# Altium schematic symbol library Luminary+Micro.SchLib: 208 symbols (part 2 of 5)
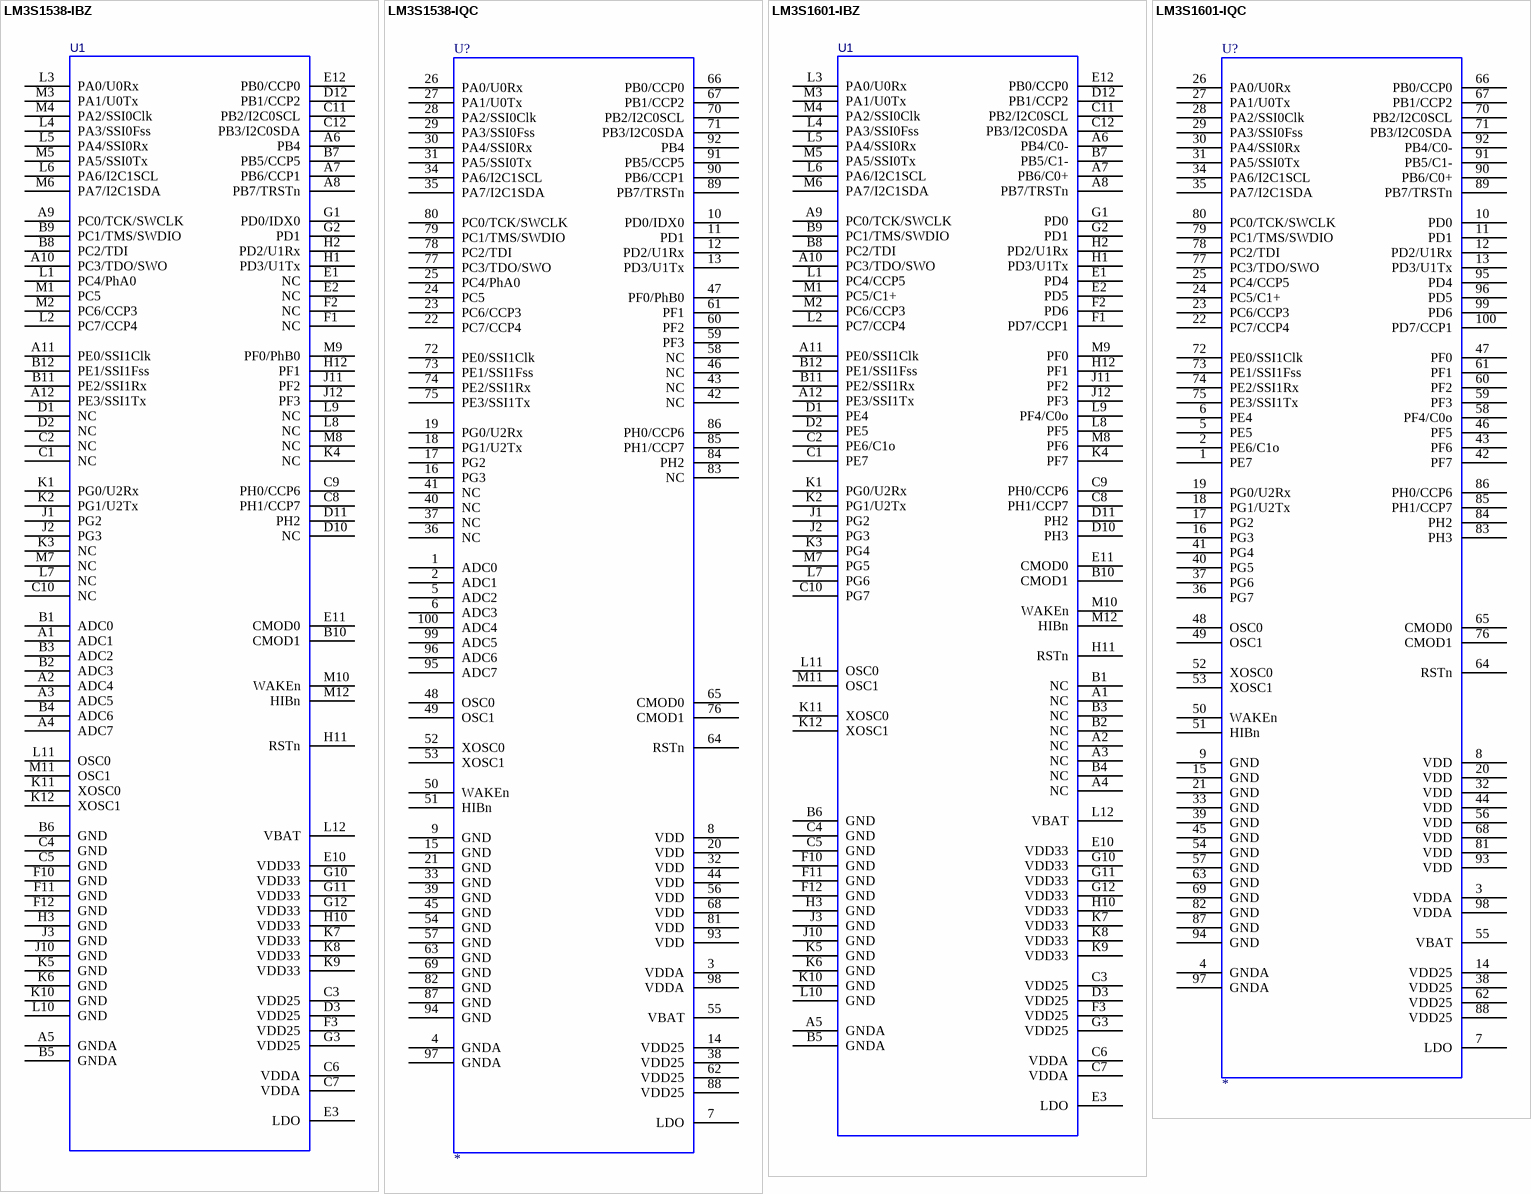
[diagram p49: symbols LM3S1538-IBZ to LM3S1601-IQC]

## LM3S1601-IBZ
designator U1
Stellaris ARM Cortex-M3 Microcontroller; MFG: Luminary Micro; Ordering: LM3S1601-IBZ; LMI Class: Fury
footprint BGA108C80P12X12_1000X1000X150 (BGA, 108-Leads, Body 10.0x10.0mm,  Pitch 0.80mm)
pins: A1 NC, A2 NC, A3 NC, A4 NC, A5 GNDA, A6 PB4/C0-, A7 PB6/C0+, A8 PB7/TRSTn, A9 PC0/TCK/SWCLK, A10 PC3/TDO/SWO, A11 PE0/SSI1Clk, A12 PE3/SSI1Tx, B1 NC, B2 NC, B3 NC, B4 NC, B5 GNDA, B6 GND, B7 PB5/C1-, B8 PC2/TDI, B9 PC1/TMS/SWDIO, B10 CMOD1, B11 PE2/SSI1Rx, B12 PE1/SSI1Fss, C1 PE7, C2 PE6/C1o, C3 VDD25, C4 GND, C5 GND, C6 VDDA, C7 VDDA, C8 PH1/CCP7, C9 PH0/CCP6, C10 PG7, C11 PB2/I2C0SCL, C12 PB3/I2C0SDA, D1 PE4, D2 PE5, D3 VDD25, D10 PH3, D11 PH2, D12 PB1/CCP2, E1 PD4, E2 PD5, E3 LDO, E10 VDD33, E11 CMOD0, E12 PB0/CCP0, F1 PD7/CCP1, F2 PD6, F3 VDD25, F10 GND, F11 GND, F12 GND, G1 PD0, G2 PD1, G3 VDD25, G10 VDD33, G11 VDD33, G12 VDD33, H1 PD3/U1Tx, H2 PD2/U1Rx, H3 GND, H10 VDD33, H11 RSTn, H12 PF1, J1 PG2, J2 PG3, J3 GND, J10 GND, J11 PF2, J12 PF3, K1 PG0/U2Rx, K2 PG1/U2Tx, K3 PG4, K4 PF7, K5 GND, K6 GND, K7 VDD33, K8 VDD33, K9 VDD33, K10 GND, K11 XOSC0, K12 XOSC1, L1 PC4/CCP5, L2 PC7/CCP4, L3 PA0/U0Rx, L4 PA3/SSI0Fss, L5 PA4/SSI0Rx, L6 PA6/I2C1SCL, L7 PG6, L8 PF5, L9 PF4/C0o, L10 GND, L11 OSC0, L12 VBAT, M1 PC5/C1+, M2 PC6/CCP3, M3 PA1/U0Tx, M4 PA2/SSI0Clk, M5 PA5/SSI0Tx, M6 PA7/I2C1SDA, M7 PG5, M8 PF6, M9 PF0, M10 WAKEn, M11 OSC1, M12 HIBn

## LM3S1601-IQC
designator U?
Stellaris ARM Cortex-M3 Microcontroller; MFG: Luminary Micro; Ordering: LM3S1601-IQC; LMI Class: Fury
footprint QFP50P1600X1600X160-100N
pins: 1 PE7, 2 PE6/C1o, 3 VDDA, 4 GNDA, 5 PE5, 6 PE4, 7 LDO, 8 VDD, 9 GND, 10 PD0, 11 PD1, 12 PD2/U1Rx, 13 PD3/U1Tx, 14 VDD25, 15 GND, 16 PG3, 17 PG2, 18 PG1/U2Tx, 19 PG0/U2Rx, 20 VDD, 21 GND, 22 PC7/CCP4, 23 PC6/CCP3, 24 PC5/C1+, 25 PC4/CCP5, 26 PA0/U0Rx, 27 PA1/U0Tx, 28 PA2/SSI0Clk, 29 PA3/SSI0Fss, 30 PA4/SSI0Rx, 31 PA5/SSI0Tx, 32 VDD, 33 GND, 34 PA6/I2C1SCL, 35 PA7/I2C1SDA, 36 PG7, 37 PG6, 38 VDD25, 39 GND, 40 PG5, 41 PG4, 42 PF7, 43 PF6, 44 VDD, 45 GND, 46 PF5, 47 PF0, 48 OSC0, 49 OSC1, 50 WAKEn, 51 HIBn, 52 XOSC0, 53 XOSC1, 54 GND, 55 VBAT, 56 VDD, 57 GND, 58 PF4/C0o, 59 PF3, 60 PF2, 61 PF1, 62 VDD25, 63 GND, 64 RSTn, 65 CMOD0, 66 PB0/CCP0, 67 PB1/CCP2, 68 VDD, 69 GND, 70 PB2/I2C0SCL, 71 PB3/I2C0SDA, 72 PE0/SSI1Clk, 73 PE1/SSI1Fss, 74 PE2/SSI1Rx, 75 PE3/SSI1Tx, 76 CMOD1, 77 PC3/TDO/SWO, 78 PC2/TDI, 79 PC1/TMS/SWDIO, 80 PC0/TCK/SWCLK, 81 VDD, 82 GND, 83 PH3, 84 PH2, 85 PH1/CCP7, 86 PH0/CCP6, 87 GND, 88 VDD25, 89 PB7/TRSTn, 90 PB6/C0+, 91 PB5/C1-, 92 PB4/C0-, 93 VDD, 94 GND, 95 PD4, 96 PD5, 97 GNDA, 98 VDDA, 99 PD6, 100 PD7/CCP1

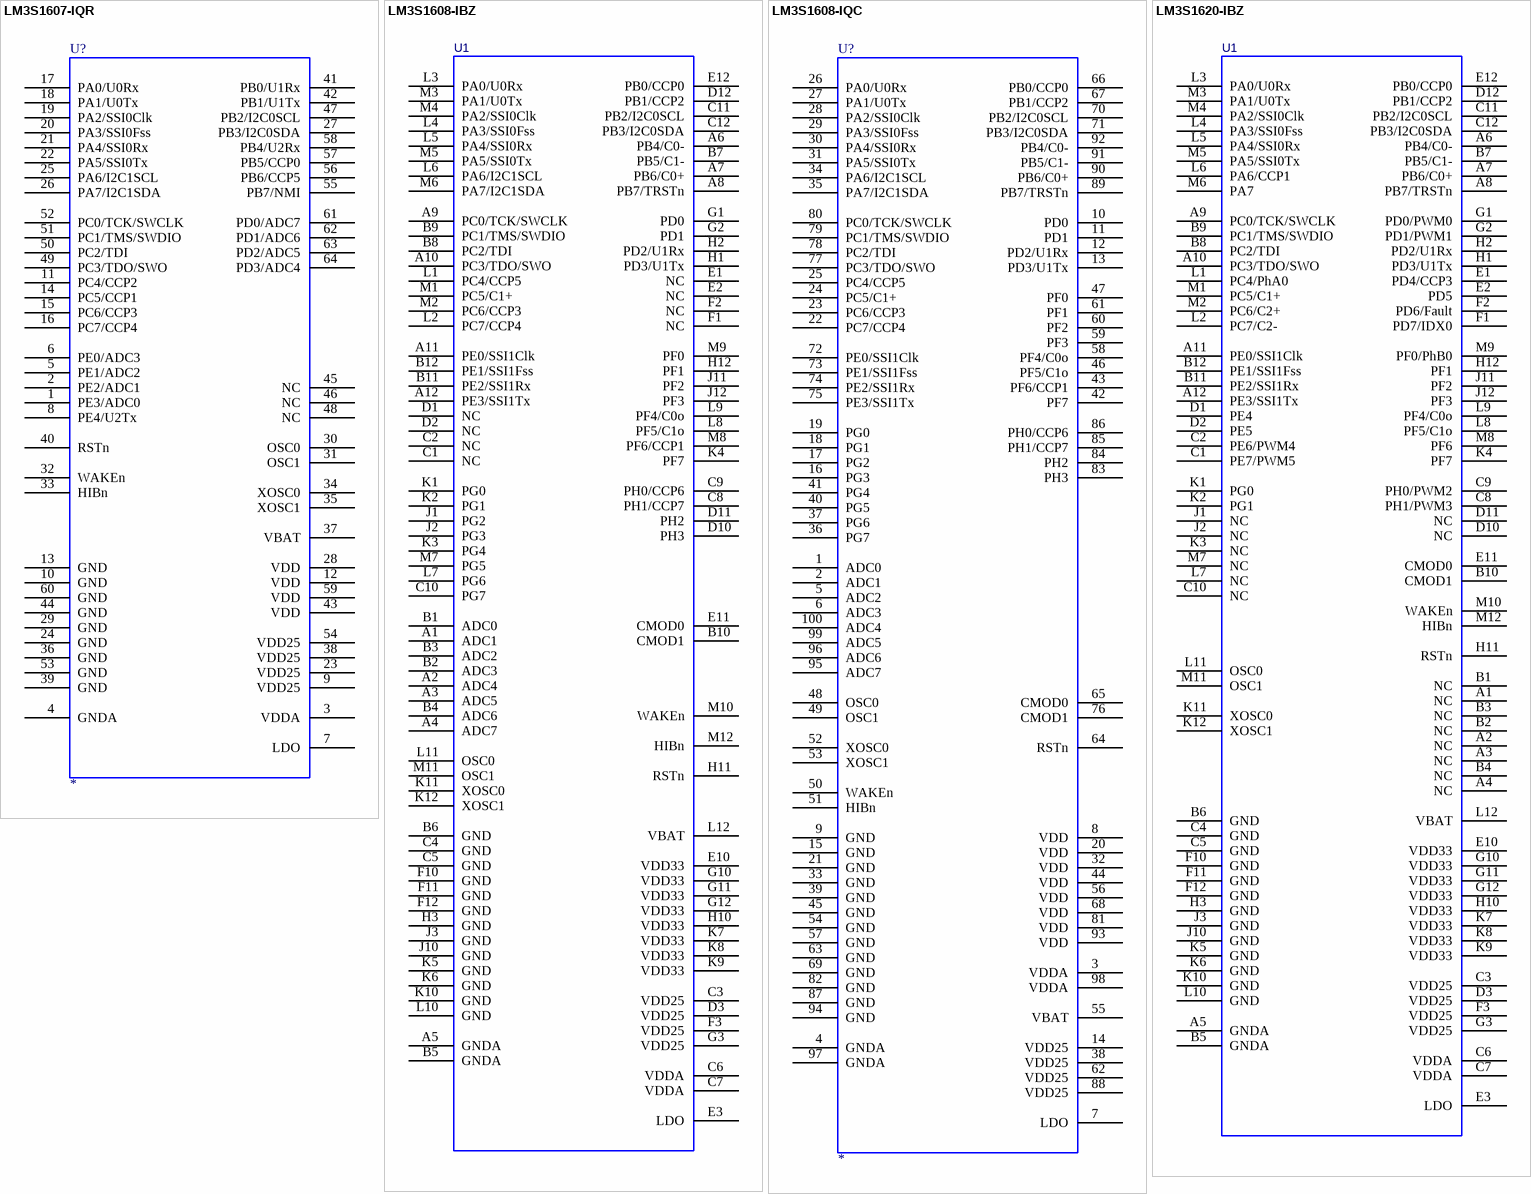
[diagram p10: symbols LM3S1607-IQR to LM3S1620-IBZ]

## LM3S1607-IQR
designator U?
Stellaris ARM Cortex-M3 Microcontroller; MFG: Luminary Micro; Ordering: LM3S1607-IQR; LMI Class: Dust Devil
footprint QFP50P1200X1200X160-64N
pins: 1 PE3/ADC0, 2 PE2/ADC1, 3 VDDA, 4 GNDA, 5 PE1/ADC2, 6 PE0/ADC3, 7 LDO, 8 PE4/U2Tx, 9 VDD25, 10 GND, 11 PC4/CCP2, 12 VDD, 13 GND, 14 PC5/CCP1, 15 PC6/CCP3, 16 PC7/CCP4, 17 PA0/U0Rx, 18 PA1/U0Tx, 19 PA2/SSI0Clk, 20 PA3/SSI0Fss, 21 PA4/SSI0Rx, 22 PA5/SSI0Tx, 23 VDD25, 24 GND, 25 PA6/I2C1SCL, 26 PA7/I2C1SDA, 27 PB3/I2C0SDA, 28 VDD, 29 GND, 30 OSC0, 31 OSC1, 32 WAKEn, 33 HIBn, 34 XOSC0, 35 XOSC1, 36 GND, 37 VBAT, 38 VDD25, 39 GND, 40 RSTn, 41 PB0/U1Rx, 42 PB1/U1Tx, 43 VDD, 44 GND, 45 NC, 46 NC, 47 PB2/I2C0SCL, 48 NC, 49 PC3/TDO/SWO, 50 PC2/TDI, 51 PC1/TMS/SWDIO, 52 PC0/TCK/SWCLK, 53 GND, 54 VDD25, 55 PB7/NMI, 56 PB6/CCP5, 57 PB5/CCP0, 58 PB4/U2Rx, 59 VDD, 60 GND, 61 PD0/ADC7, 62 PD1/ADC6, 63 PD2/ADC5, 64 PD3/ADC4

## LM3S1608-IBZ
designator U1
Stellaris ARM Cortex-M3 Microcontroller; MFG: Luminary Micro; Ordering: LM3S1608-IBZ; LMI Class: Fury
footprint BGA108C80P12X12_1000X1000X150 (BGA, 108-Leads, Body 10.0x10.0mm,  Pitch 0.80mm)
pins: A1 ADC1, A2 ADC4, A3 ADC5, A4 ADC7, A5 GNDA, A6 PB4/C0-, A7 PB6/C0+, A8 PB7/TRSTn, A9 PC0/TCK/SWCLK, A10 PC3/TDO/SWO, A11 PE0/SSI1Clk, A12 PE3/SSI1Tx, B1 ADC0, B2 ADC3, B3 ADC2, B4 ADC6, B5 GNDA, B6 GND, B7 PB5/C1-, B8 PC2/TDI, B9 PC1/TMS/SWDIO, B10 CMOD1, B11 PE2/SSI1Rx, B12 PE1/SSI1Fss, C1 NC, C2 NC, C3 VDD25, C4 GND, C5 GND, C6 VDDA, C7 VDDA, C8 PH1/CCP7, C9 PH0/CCP6, C10 PG7, C11 PB2/I2C0SCL, C12 PB3/I2C0SDA, D1 NC, D2 NC, D3 VDD25, D10 PH3, D11 PH2, D12 PB1/CCP2, E1 NC, E2 NC, E3 LDO, E10 VDD33, E11 CMOD0, E12 PB0/CCP0, F1 NC, F2 NC, F3 VDD25, F10 GND, F11 GND, F12 GND, G1 PD0, G2 PD1, G3 VDD25, G10 VDD33, G11 VDD33, G12 VDD33, H1 PD3/U1Tx, H2 PD2/U1Rx, H3 GND, H10 VDD33, H11 RSTn, H12 PF1, J1 PG2, J2 PG3, J3 GND, J10 GND, J11 PF2, J12 PF3, K1 PG0, K2 PG1, K3 PG4, K4 PF7, K5 GND, K6 GND, K7 VDD33, K8 VDD33, K9 VDD33, K10 GND, K11 XOSC0, K12 XOSC1, L1 PC4/CCP5, L2 PC7/CCP4, L3 PA0/U0Rx, L4 PA3/SSI0Fss, L5 PA4/SSI0Rx, L6 PA6/I2C1SCL, L7 PG6, L8 PF5/C1o, L9 PF4/C0o, L10 GND, L11 OSC0, L12 VBAT, M1 PC5/C1+, M2 PC6/CCP3, M3 PA1/U0Tx, M4 PA2/SSI0Clk, M5 PA5/SSI0Tx, M6 PA7/I2C1SDA, M7 PG5, M8 PF6/CCP1, M9 PF0, M10 WAKEn, M11 OSC1, M12 HIBn

## LM3S1608-IQC
designator U?
Stellaris ARM Cortex-M3 Microcontroller; MFG: Luminary Micro; Ordering: LM3S1608-IQC; LMI Class: Fury
footprint QFP50P1600X1600X160-100N
pins: 1 ADC0, 2 ADC1, 3 VDDA, 4 GNDA, 5 ADC2, 6 ADC3, 7 LDO, 8 VDD, 9 GND, 10 PD0, 11 PD1, 12 PD2/U1Rx, 13 PD3/U1Tx, 14 VDD25, 15 GND, 16 PG3, 17 PG2, 18 PG1, 19 PG0, 20 VDD, 21 GND, 22 PC7/CCP4, 23 PC6/CCP3, 24 PC5/C1+, 25 PC4/CCP5, 26 PA0/U0Rx, 27 PA1/U0Tx, 28 PA2/SSI0Clk, 29 PA3/SSI0Fss, 30 PA4/SSI0Rx, 31 PA5/SSI0Tx, 32 VDD, 33 GND, 34 PA6/I2C1SCL, 35 PA7/I2C1SDA, 36 PG7, 37 PG6, 38 VDD25, 39 GND, 40 PG5, 41 PG4, 42 PF7, 43 PF6/CCP1, 44 VDD, 45 GND, 46 PF5/C1o, 47 PF0, 48 OSC0, 49 OSC1, 50 WAKEn, 51 HIBn, 52 XOSC0, 53 XOSC1, 54 GND, 55 VBAT, 56 VDD, 57 GND, 58 PF4/C0o, 59 PF3, 60 PF2, 61 PF1, 62 VDD25, 63 GND, 64 RSTn, 65 CMOD0, 66 PB0/CCP0, 67 PB1/CCP2, 68 VDD, 69 GND, 70 PB2/I2C0SCL, 71 PB3/I2C0SDA, 72 PE0/SSI1Clk, 73 PE1/SSI1Fss, 74 PE2/SSI1Rx, 75 PE3/SSI1Tx, 76 CMOD1, 77 PC3/TDO/SWO, 78 PC2/TDI, 79 PC1/TMS/SWDIO, 80 PC0/TCK/SWCLK, 81 VDD, 82 GND, 83 PH3, 84 PH2, 85 PH1/CCP7, 86 PH0/CCP6, 87 GND, 88 VDD25, 89 PB7/TRSTn, 90 PB6/C0+, 91 PB5/C1-, 92 PB4/C0-, 93 VDD, 94 GND, 95 ADC7, 96 ADC6, 97 GNDA, 98 VDDA, 99 ADC5, 100 ADC4

## LM3S1620-IBZ
designator U1
Stellaris ARM Cortex-M3 Microcontroller; MFG: Luminary Micro; Ordering: LM3S1620-IBZ; LMI Class: Fury
footprint BGA108C80P12X12_1000X1000X150 (BGA, 108-Leads, Body 10.0x10.0mm,  Pitch 0.80mm)
pins: A1 NC, A2 NC, A3 NC, A4 NC, A5 GNDA, A6 PB4/C0-, A7 PB6/C0+, A8 PB7/TRSTn, A9 PC0/TCK/SWCLK, A10 PC3/TDO/SWO, A11 PE0/SSI1Clk, A12 PE3/SSI1Tx, B1 NC, B2 NC, B3 NC, B4 NC, B5 GNDA, B6 GND, B7 PB5/C1-, B8 PC2/TDI, B9 PC1/TMS/SWDIO, B10 CMOD1, B11 PE2/SSI1Rx, B12 PE1/SSI1Fss, C1 PE7/PWM5, C2 PE6/PWM4, C3 VDD25, C4 GND, C5 GND, C6 VDDA, C7 VDDA, C8 PH1/PWM3, C9 PH0/PWM2, C10 NC, C11 PB2/I2C0SCL, C12 PB3/I2C0SDA, D1 PE4, D2 PE5, D3 VDD25, D10 NC, D11 NC, D12 PB1/CCP2, E1 PD4/CCP3, E2 PD5, E3 LDO, E10 VDD33, E11 CMOD0, E12 PB0/CCP0, F1 PD7/IDX0, F2 PD6/Fault, F3 VDD25, F10 GND, F11 GND, F12 GND, G1 PD0/PWM0, G2 PD1/PWM1, G3 VDD25, G10 VDD33, G11 VDD33, G12 VDD33, H1 PD3/U1Tx, H2 PD2/U1Rx, H3 GND, H10 VDD33, H11 RSTn, H12 PF1, J1 NC, J2 NC, J3 GND, J10 GND, J11 PF2, J12 PF3, K1 PG0, K2 PG1, K3 NC, K4 PF7, K5 GND, K6 GND, K7 VDD33, K8 VDD33, K9 VDD33, K10 GND, K11 XOSC0, K12 XOSC1, L1 PC4/PhA0, L2 PC7/C2-, L3 PA0/U0Rx, L4 PA3/SSI0Fss, L5 PA4/SSI0Rx, L6 PA6/CCP1, L7 NC, L8 PF5/C1o, L9 PF4/C0o, L10 GND, L11 OSC0, L12 VBAT, M1 PC5/C1+, M2 PC6/C2+, M3 PA1/U0Tx, M4 PA2/SSI0Clk, M5 PA5/SSI0Tx, M6 PA7, M7 NC, M8 PF6, M9 PF0/PhB0, M10 WAKEn, M11 OSC1, M12 HIBn

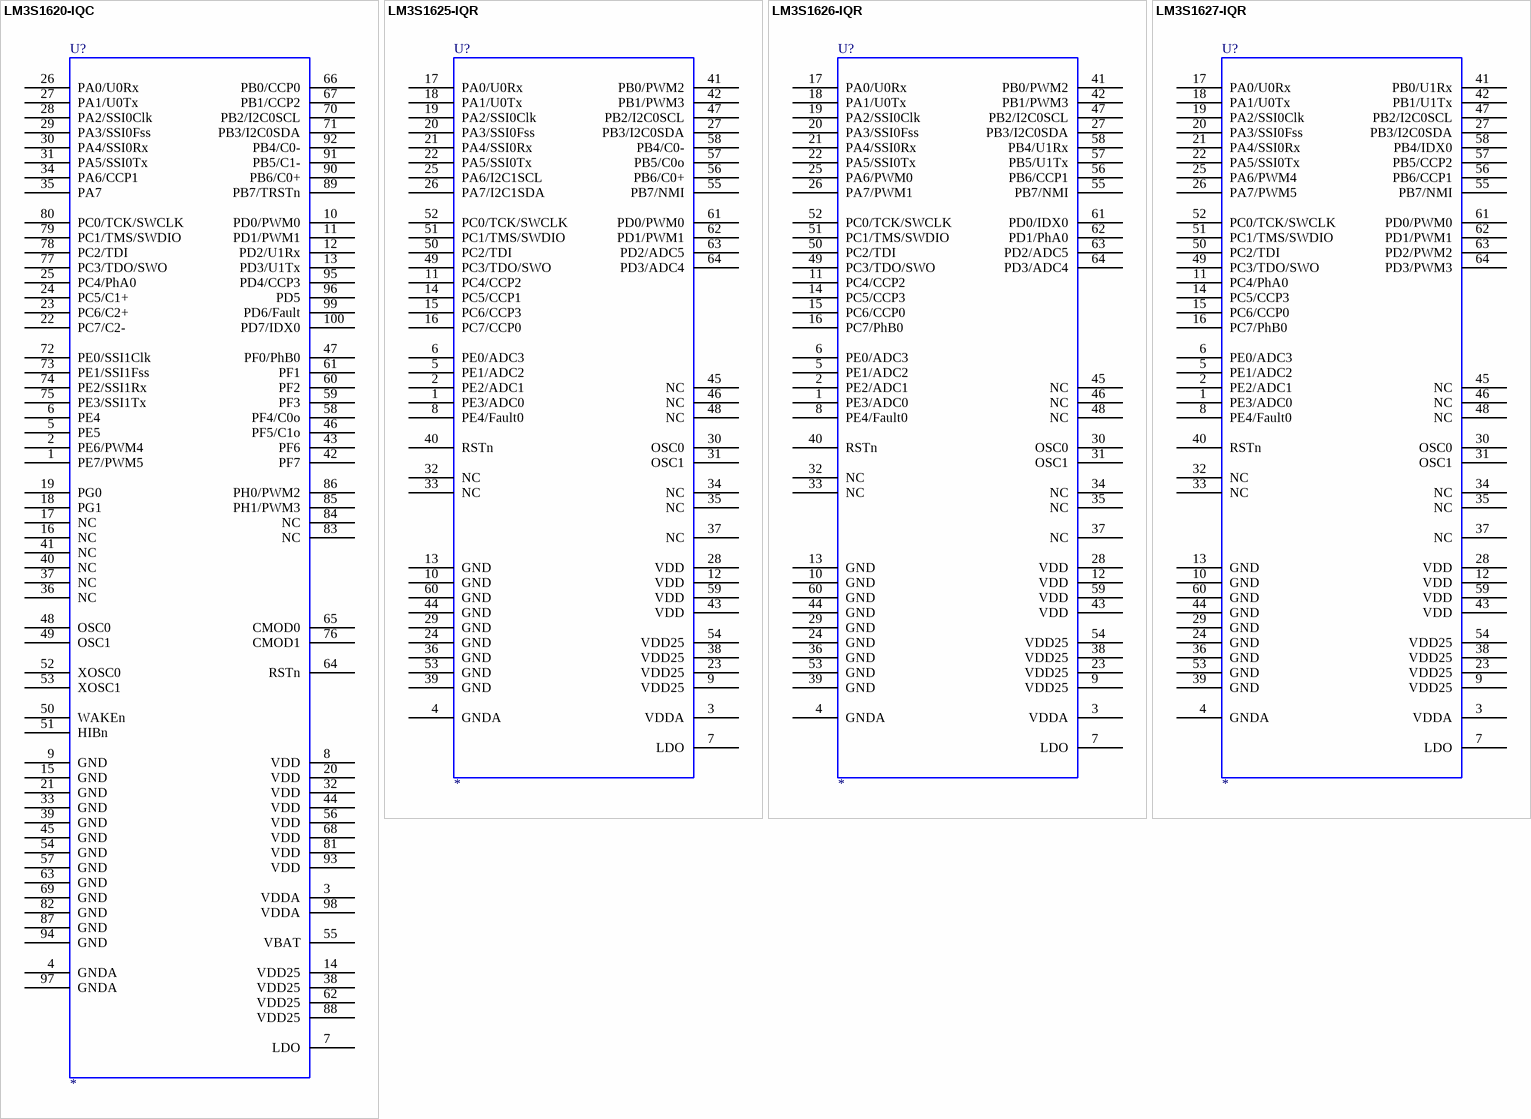
[diagram p11: symbols LM3S1620-IQC to LM3S1627-IQR]

## LM3S1620-IQC
designator U?
Stellaris ARM Cortex-M3 Microcontroller; MFG: Luminary Micro; Ordering: LM3S1620-IQC; LMI Class: Fury
footprint QFP50P1600X1600X160-100N
pins: 1 PE7/PWM5, 2 PE6/PWM4, 3 VDDA, 4 GNDA, 5 PE5, 6 PE4, 7 LDO, 8 VDD, 9 GND, 10 PD0/PWM0, 11 PD1/PWM1, 12 PD2/U1Rx, 13 PD3/U1Tx, 14 VDD25, 15 GND, 16 NC, 17 NC, 18 PG1, 19 PG0, 20 VDD, 21 GND, 22 PC7/C2-, 23 PC6/C2+, 24 PC5/C1+, 25 PC4/PhA0, 26 PA0/U0Rx, 27 PA1/U0Tx, 28 PA2/SSI0Clk, 29 PA3/SSI0Fss, 30 PA4/SSI0Rx, 31 PA5/SSI0Tx, 32 VDD, 33 GND, 34 PA6/CCP1, 35 PA7, 36 NC, 37 NC, 38 VDD25, 39 GND, 40 NC, 41 NC, 42 PF7, 43 PF6, 44 VDD, 45 GND, 46 PF5/C1o, 47 PF0/PhB0, 48 OSC0, 49 OSC1, 50 WAKEn, 51 HIBn, 52 XOSC0, 53 XOSC1, 54 GND, 55 VBAT, 56 VDD, 57 GND, 58 PF4/C0o, 59 PF3, 60 PF2, 61 PF1, 62 VDD25, 63 GND, 64 RSTn, 65 CMOD0, 66 PB0/CCP0, 67 PB1/CCP2, 68 VDD, 69 GND, 70 PB2/I2C0SCL, 71 PB3/I2C0SDA, 72 PE0/SSI1Clk, 73 PE1/SSI1Fss, 74 PE2/SSI1Rx, 75 PE3/SSI1Tx, 76 CMOD1, 77 PC3/TDO/SWO, 78 PC2/TDI, 79 PC1/TMS/SWDIO, 80 PC0/TCK/SWCLK, 81 VDD, 82 GND, 83 NC, 84 NC, 85 PH1/PWM3, 86 PH0/PWM2, 87 GND, 88 VDD25, 89 PB7/TRSTn, 90 PB6/C0+, 91 PB5/C1-, 92 PB4/C0-, 93 VDD, 94 GND, 95 PD4/CCP3, 96 PD5, 97 GNDA, 98 VDDA, 99 PD6/Fault, 100 PD7/IDX0

## LM3S1625-IQR
designator U?
Stellaris ARM Cortex-M3 Microcontroller; MFG: Luminary Micro; Ordering: LM3S1625-IQR; LMI Class: Dust Devil
footprint QFP50P1200X1200X160-64N
pins: 1 PE3/ADC0, 2 PE2/ADC1, 3 VDDA, 4 GNDA, 5 PE1/ADC2, 6 PE0/ADC3, 7 LDO, 8 PE4/Fault0, 9 VDD25, 10 GND, 11 PC4/CCP2, 12 VDD, 13 GND, 14 PC5/CCP1, 15 PC6/CCP3, 16 PC7/CCP0, 17 PA0/U0Rx, 18 PA1/U0Tx, 19 PA2/SSI0Clk, 20 PA3/SSI0Fss, 21 PA4/SSI0Rx, 22 PA5/SSI0Tx, 23 VDD25, 24 GND, 25 PA6/I2C1SCL, 26 PA7/I2C1SDA, 27 PB3/I2C0SDA, 28 VDD, 29 GND, 30 OSC0, 31 OSC1, 32 NC, 33 NC, 34 NC, 35 NC, 36 GND, 37 NC, 38 VDD25, 39 GND, 40 RSTn, 41 PB0/PWM2, 42 PB1/PWM3, 43 VDD, 44 GND, 45 NC, 46 NC, 47 PB2/I2C0SCL, 48 NC, 49 PC3/TDO/SWO, 50 PC2/TDI, 51 PC1/TMS/SWDIO, 52 PC0/TCK/SWCLK, 53 GND, 54 VDD25, 55 PB7/NMI, 56 PB6/C0+, 57 PB5/C0o, 58 PB4/C0-, 59 VDD, 60 GND, 61 PD0/PWM0, 62 PD1/PWM1, 63 PD2/ADC5, 64 PD3/ADC4

## LM3S1626-IQR
designator U?
Stellaris ARM Cortex-M3 Microcontroller; MFG: Luminary Micro; Ordering: LM3S1626-IQR; LMI Class: Dust Devil
footprint QFP50P1200X1200X160-64N
pins: 1 PE3/ADC0, 2 PE2/ADC1, 3 VDDA, 4 GNDA, 5 PE1/ADC2, 6 PE0/ADC3, 7 LDO, 8 PE4/Fault0, 9 VDD25, 10 GND, 11 PC4/CCP2, 12 VDD, 13 GND, 14 PC5/CCP3, 15 PC6/CCP0, 16 PC7/PhB0, 17 PA0/U0Rx, 18 PA1/U0Tx, 19 PA2/SSI0Clk, 20 PA3/SSI0Fss, 21 PA4/SSI0Rx, 22 PA5/SSI0Tx, 23 VDD25, 24 GND, 25 PA6/PWM0, 26 PA7/PWM1, 27 PB3/I2C0SDA, 28 VDD, 29 GND, 30 OSC0, 31 OSC1, 32 NC, 33 NC, 34 NC, 35 NC, 36 GND, 37 NC, 38 VDD25, 39 GND, 40 RSTn, 41 PB0/PWM2, 42 PB1/PWM3, 43 VDD, 44 GND, 45 NC, 46 NC, 47 PB2/I2C0SCL, 48 NC, 49 PC3/TDO/SWO, 50 PC2/TDI, 51 PC1/TMS/SWDIO, 52 PC0/TCK/SWCLK, 53 GND, 54 VDD25, 55 PB7/NMI, 56 PB6/CCP1, 57 PB5/U1Tx, 58 PB4/U1Rx, 59 VDD, 60 GND, 61 PD0/IDX0, 62 PD1/PhA0, 63 PD2/ADC5, 64 PD3/ADC4

## LM3S1627-IQR
designator U?
Stellaris ARM Cortex-M3 Microcontroller; MFG: Luminary Micro; Ordering: LM3S1627-IQR; LMI Class: Dust Devil
footprint QFP50P1200X1200X160-64N
pins: 1 PE3/ADC0, 2 PE2/ADC1, 3 VDDA, 4 GNDA, 5 PE1/ADC2, 6 PE0/ADC3, 7 LDO, 8 PE4/Fault0, 9 VDD25, 10 GND, 11 PC4/PhA0, 12 VDD, 13 GND, 14 PC5/CCP3, 15 PC6/CCP0, 16 PC7/PhB0, 17 PA0/U0Rx, 18 PA1/U0Tx, 19 PA2/SSI0Clk, 20 PA3/SSI0Fss, 21 PA4/SSI0Rx, 22 PA5/SSI0Tx, 23 VDD25, 24 GND, 25 PA6/PWM4, 26 PA7/PWM5, 27 PB3/I2C0SDA, 28 VDD, 29 GND, 30 OSC0, 31 OSC1, 32 NC, 33 NC, 34 NC, 35 NC, 36 GND, 37 NC, 38 VDD25, 39 GND, 40 RSTn, 41 PB0/U1Rx, 42 PB1/U1Tx, 43 VDD, 44 GND, 45 NC, 46 NC, 47 PB2/I2C0SCL, 48 NC, 49 PC3/TDO/SWO, 50 PC2/TDI, 51 PC1/TMS/SWDIO, 52 PC0/TCK/SWCLK, 53 GND, 54 VDD25, 55 PB7/NMI, 56 PB6/CCP1, 57 PB5/CCP2, 58 PB4/IDX0, 59 VDD, 60 GND, 61 PD0/PWM0, 62 PD1/PWM1, 63 PD2/PWM2, 64 PD3/PWM3

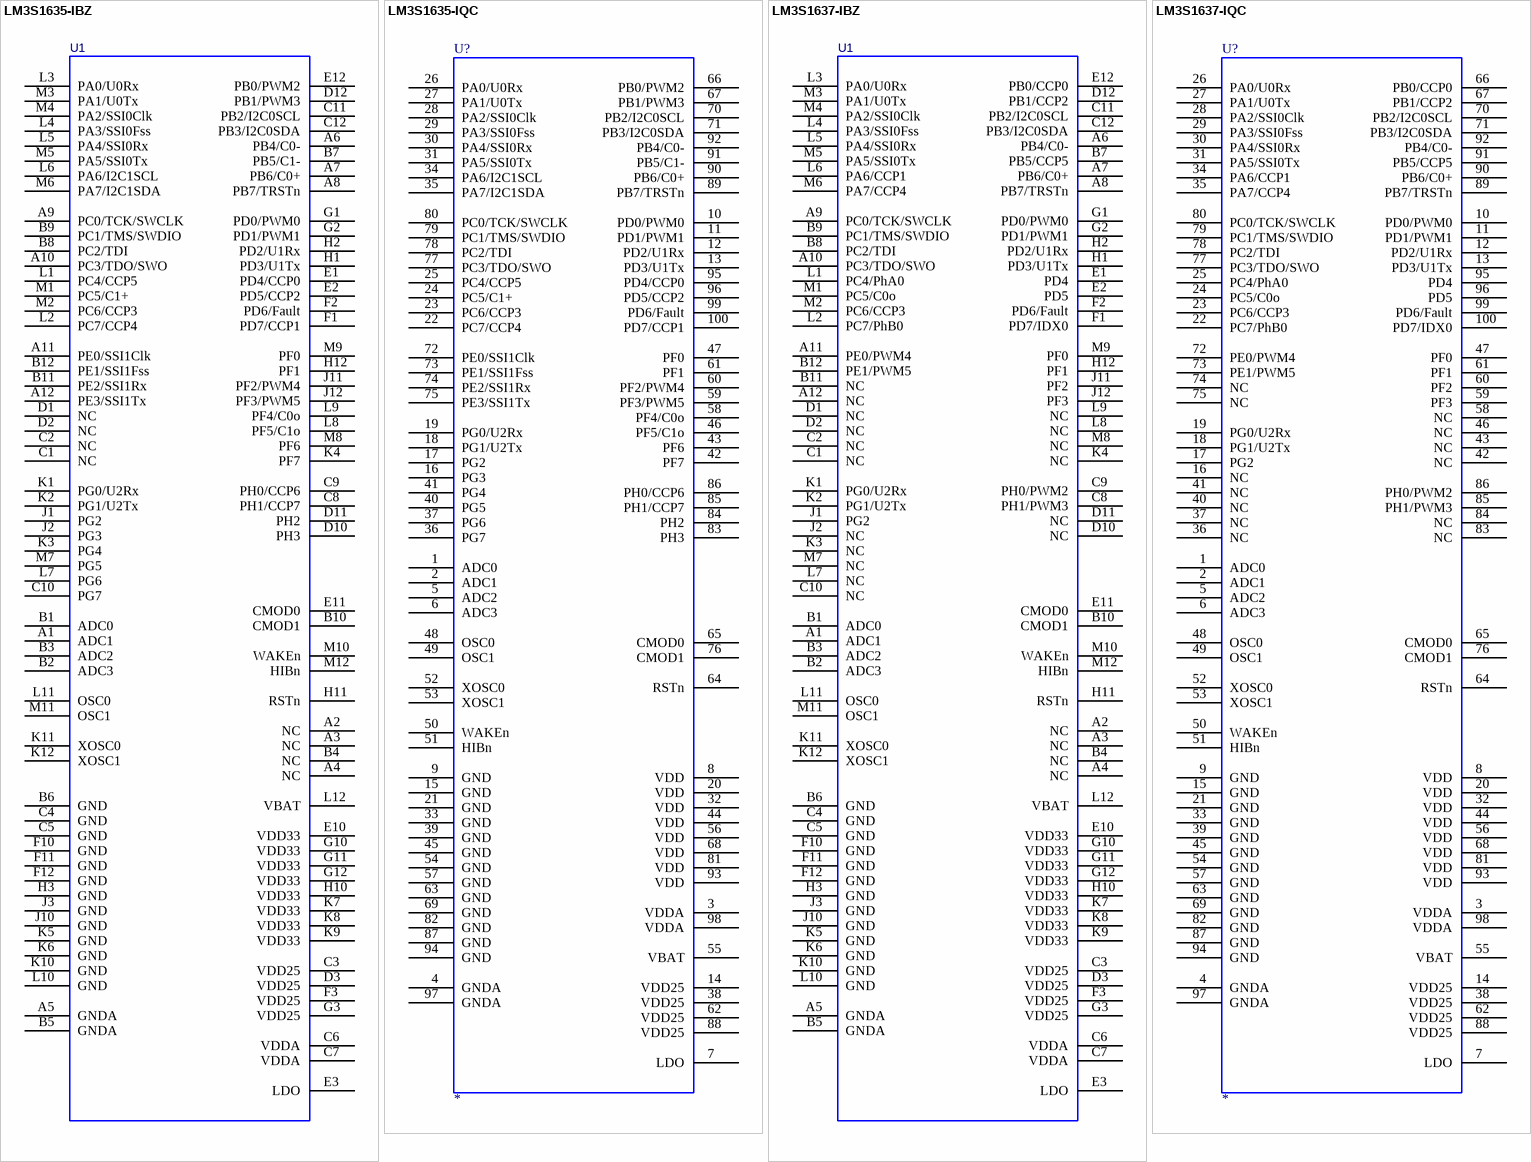
[diagram p12: symbols LM3S1635-IBZ to LM3S1637-IQC]

## LM3S1635-IBZ
designator U1
Stellaris ARM Cortex-M3 Microcontroller; MFG: Luminary Micro; Ordering: LM3S1635-IBZ; LMI Class: Fury
footprint BGA108C80P12X12_1000X1000X150 (BGA, 108-Leads, Body 10.0x10.0mm,  Pitch 0.80mm)
pins: A1 ADC1, A2 NC, A3 NC, A4 NC, A5 GNDA, A6 PB4/C0-, A7 PB6/C0+, A8 PB7/TRSTn, A9 PC0/TCK/SWCLK, A10 PC3/TDO/SWO, A11 PE0/SSI1Clk, A12 PE3/SSI1Tx, B1 ADC0, B2 ADC3, B3 ADC2, B4 NC, B5 GNDA, B6 GND, B7 PB5/C1-, B8 PC2/TDI, B9 PC1/TMS/SWDIO, B10 CMOD1, B11 PE2/SSI1Rx, B12 PE1/SSI1Fss, C1 NC, C2 NC, C3 VDD25, C4 GND, C5 GND, C6 VDDA, C7 VDDA, C8 PH1/CCP7, C9 PH0/CCP6, C10 PG7, C11 PB2/I2C0SCL, C12 PB3/I2C0SDA, D1 NC, D2 NC, D3 VDD25, D10 PH3, D11 PH2, D12 PB1/PWM3, E1 PD4/CCP0, E2 PD5/CCP2, E3 LDO, E10 VDD33, E11 CMOD0, E12 PB0/PWM2, F1 PD7/CCP1, F2 PD6/Fault, F3 VDD25, F10 GND, F11 GND, F12 GND, G1 PD0/PWM0, G2 PD1/PWM1, G3 VDD25, G10 VDD33, G11 VDD33, G12 VDD33, H1 PD3/U1Tx, H2 PD2/U1Rx, H3 GND, H10 VDD33, H11 RSTn, H12 PF1, J1 PG2, J2 PG3, J3 GND, J10 GND, J11 PF2/PWM4, J12 PF3/PWM5, K1 PG0/U2Rx, K2 PG1/U2Tx, K3 PG4, K4 PF7, K5 GND, K6 GND, K7 VDD33, K8 VDD33, K9 VDD33, K10 GND, K11 XOSC0, K12 XOSC1, L1 PC4/CCP5, L2 PC7/CCP4, L3 PA0/U0Rx, L4 PA3/SSI0Fss, L5 PA4/SSI0Rx, L6 PA6/I2C1SCL, L7 PG6, L8 PF5/C1o, L9 PF4/C0o, L10 GND, L11 OSC0, L12 VBAT, M1 PC5/C1+, M2 PC6/CCP3, M3 PA1/U0Tx, M4 PA2/SSI0Clk, M5 PA5/SSI0Tx, M6 PA7/I2C1SDA, M7 PG5, M8 PF6, M9 PF0, M10 WAKEn, M11 OSC1, M12 HIBn

## LM3S1635-IQC
designator U?
Stellaris ARM Cortex-M3 Microcontroller; MFG: Luminary Micro; Ordering: LM3S1635-IQC; LMI Class: Fury
footprint QFP50P1600X1600X160-100N
pins: 1 ADC0, 2 ADC1, 3 VDDA, 4 GNDA, 5 ADC2, 6 ADC3, 7 LDO, 8 VDD, 9 GND, 10 PD0/PWM0, 11 PD1/PWM1, 12 PD2/U1Rx, 13 PD3/U1Tx, 14 VDD25, 15 GND, 16 PG3, 17 PG2, 18 PG1/U2Tx, 19 PG0/U2Rx, 20 VDD, 21 GND, 22 PC7/CCP4, 23 PC6/CCP3, 24 PC5/C1+, 25 PC4/CCP5, 26 PA0/U0Rx, 27 PA1/U0Tx, 28 PA2/SSI0Clk, 29 PA3/SSI0Fss, 30 PA4/SSI0Rx, 31 PA5/SSI0Tx, 32 VDD, 33 GND, 34 PA6/I2C1SCL, 35 PA7/I2C1SDA, 36 PG7, 37 PG6, 38 VDD25, 39 GND, 40 PG5, 41 PG4, 42 PF7, 43 PF6, 44 VDD, 45 GND, 46 PF5/C1o, 47 PF0, 48 OSC0, 49 OSC1, 50 WAKEn, 51 HIBn, 52 XOSC0, 53 XOSC1, 54 GND, 55 VBAT, 56 VDD, 57 GND, 58 PF4/C0o, 59 PF3/PWM5, 60 PF2/PWM4, 61 PF1, 62 VDD25, 63 GND, 64 RSTn, 65 CMOD0, 66 PB0/PWM2, 67 PB1/PWM3, 68 VDD, 69 GND, 70 PB2/I2C0SCL, 71 PB3/I2C0SDA, 72 PE0/SSI1Clk, 73 PE1/SSI1Fss, 74 PE2/SSI1Rx, 75 PE3/SSI1Tx, 76 CMOD1, 77 PC3/TDO/SWO, 78 PC2/TDI, 79 PC1/TMS/SWDIO, 80 PC0/TCK/SWCLK, 81 VDD, 82 GND, 83 PH3, 84 PH2, 85 PH1/CCP7, 86 PH0/CCP6, 87 GND, 88 VDD25, 89 PB7/TRSTn, 90 PB6/C0+, 91 PB5/C1-, 92 PB4/C0-, 93 VDD, 94 GND, 95 PD4/CCP0, 96 PD5/CCP2, 97 GNDA, 98 VDDA, 99 PD6/Fault, 100 PD7/CCP1

## LM3S1637-IBZ
designator U1
Stellaris ARM Cortex-M3 Microcontroller; MFG: Luminary Micro; Ordering: LM3S1637-IBZ; LMI Class: Fury
footprint BGA108C80P12X12_1000X1000X150 (BGA, 108-Leads, Body 10.0x10.0mm,  Pitch 0.80mm)
pins: A1 ADC1, A2 NC, A3 NC, A4 NC, A5 GNDA, A6 PB4/C0-, A7 PB6/C0+, A8 PB7/TRSTn, A9 PC0/TCK/SWCLK, A10 PC3/TDO/SWO, A11 PE0/PWM4, A12 NC, B1 ADC0, B2 ADC3, B3 ADC2, B4 NC, B5 GNDA, B6 GND, B7 PB5/CCP5, B8 PC2/TDI, B9 PC1/TMS/SWDIO, B10 CMOD1, B11 NC, B12 PE1/PWM5, C1 NC, C2 NC, C3 VDD25, C4 GND, C5 GND, C6 VDDA, C7 VDDA, C8 PH1/PWM3, C9 PH0/PWM2, C10 NC, C11 PB2/I2C0SCL, C12 PB3/I2C0SDA, D1 NC, D2 NC, D3 VDD25, D10 NC, D11 NC, D12 PB1/CCP2, E1 PD4, E2 PD5, E3 LDO, E10 VDD33, E11 CMOD0, E12 PB0/CCP0, F1 PD7/IDX0, F2 PD6/Fault, F3 VDD25, F10 GND, F11 GND, F12 GND, G1 PD0/PWM0, G2 PD1/PWM1, G3 VDD25, G10 VDD33, G11 VDD33, G12 VDD33, H1 PD3/U1Tx, H2 PD2/U1Rx, H3 GND, H10 VDD33, H11 RSTn, H12 PF1, J1 PG2, J2 NC, J3 GND, J10 GND, J11 PF2, J12 PF3, K1 PG0/U2Rx, K2 PG1/U2Tx, K3 NC, K4 NC, K5 GND, K6 GND, K7 VDD33, K8 VDD33, K9 VDD33, K10 GND, K11 XOSC0, K12 XOSC1, L1 PC4/PhA0, L2 PC7/PhB0, L3 PA0/U0Rx, L4 PA3/SSI0Fss, L5 PA4/SSI0Rx, L6 PA6/CCP1, L7 NC, L8 NC, L9 NC, L10 GND, L11 OSC0, L12 VBAT, M1 PC5/C0o, M2 PC6/CCP3, M3 PA1/U0Tx, M4 PA2/SSI0Clk, M5 PA5/SSI0Tx, M6 PA7/CCP4, M7 NC, M8 NC, M9 PF0, M10 WAKEn, M11 OSC1, M12 HIBn

## LM3S1637-IQC
designator U?
Stellaris ARM Cortex-M3 Microcontroller; MFG: Luminary Micro; Ordering: LM3S1637-IQC; LMI Class: Fury
footprint QFP50P1600X1600X160-100N
pins: 1 ADC0, 2 ADC1, 3 VDDA, 4 GNDA, 5 ADC2, 6 ADC3, 7 LDO, 8 VDD, 9 GND, 10 PD0/PWM0, 11 PD1/PWM1, 12 PD2/U1Rx, 13 PD3/U1Tx, 14 VDD25, 15 GND, 16 NC, 17 PG2, 18 PG1/U2Tx, 19 PG0/U2Rx, 20 VDD, 21 GND, 22 PC7/PhB0, 23 PC6/CCP3, 24 PC5/C0o, 25 PC4/PhA0, 26 PA0/U0Rx, 27 PA1/U0Tx, 28 PA2/SSI0Clk, 29 PA3/SSI0Fss, 30 PA4/SSI0Rx, 31 PA5/SSI0Tx, 32 VDD, 33 GND, 34 PA6/CCP1, 35 PA7/CCP4, 36 NC, 37 NC, 38 VDD25, 39 GND, 40 NC, 41 NC, 42 NC, 43 NC, 44 VDD, 45 GND, 46 NC, 47 PF0, 48 OSC0, 49 OSC1, 50 WAKEn, 51 HIBn, 52 XOSC0, 53 XOSC1, 54 GND, 55 VBAT, 56 VDD, 57 GND, 58 NC, 59 PF3, 60 PF2, 61 PF1, 62 VDD25, 63 GND, 64 RSTn, 65 CMOD0, 66 PB0/CCP0, 67 PB1/CCP2, 68 VDD, 69 GND, 70 PB2/I2C0SCL, 71 PB3/I2C0SDA, 72 PE0/PWM4, 73 PE1/PWM5, 74 NC, 75 NC, 76 CMOD1, 77 PC3/TDO/SWO, 78 PC2/TDI, 79 PC1/TMS/SWDIO, 80 PC0/TCK/SWCLK, 81 VDD, 82 GND, 83 NC, 84 NC, 85 PH1/PWM3, 86 PH0/PWM2, 87 GND, 88 VDD25, 89 PB7/TRSTn, 90 PB6/C0+, 91 PB5/CCP5, 92 PB4/C0-, 93 VDD, 94 GND, 95 PD4, 96 PD5, 97 GNDA, 98 VDDA, 99 PD6/Fault, 100 PD7/IDX0

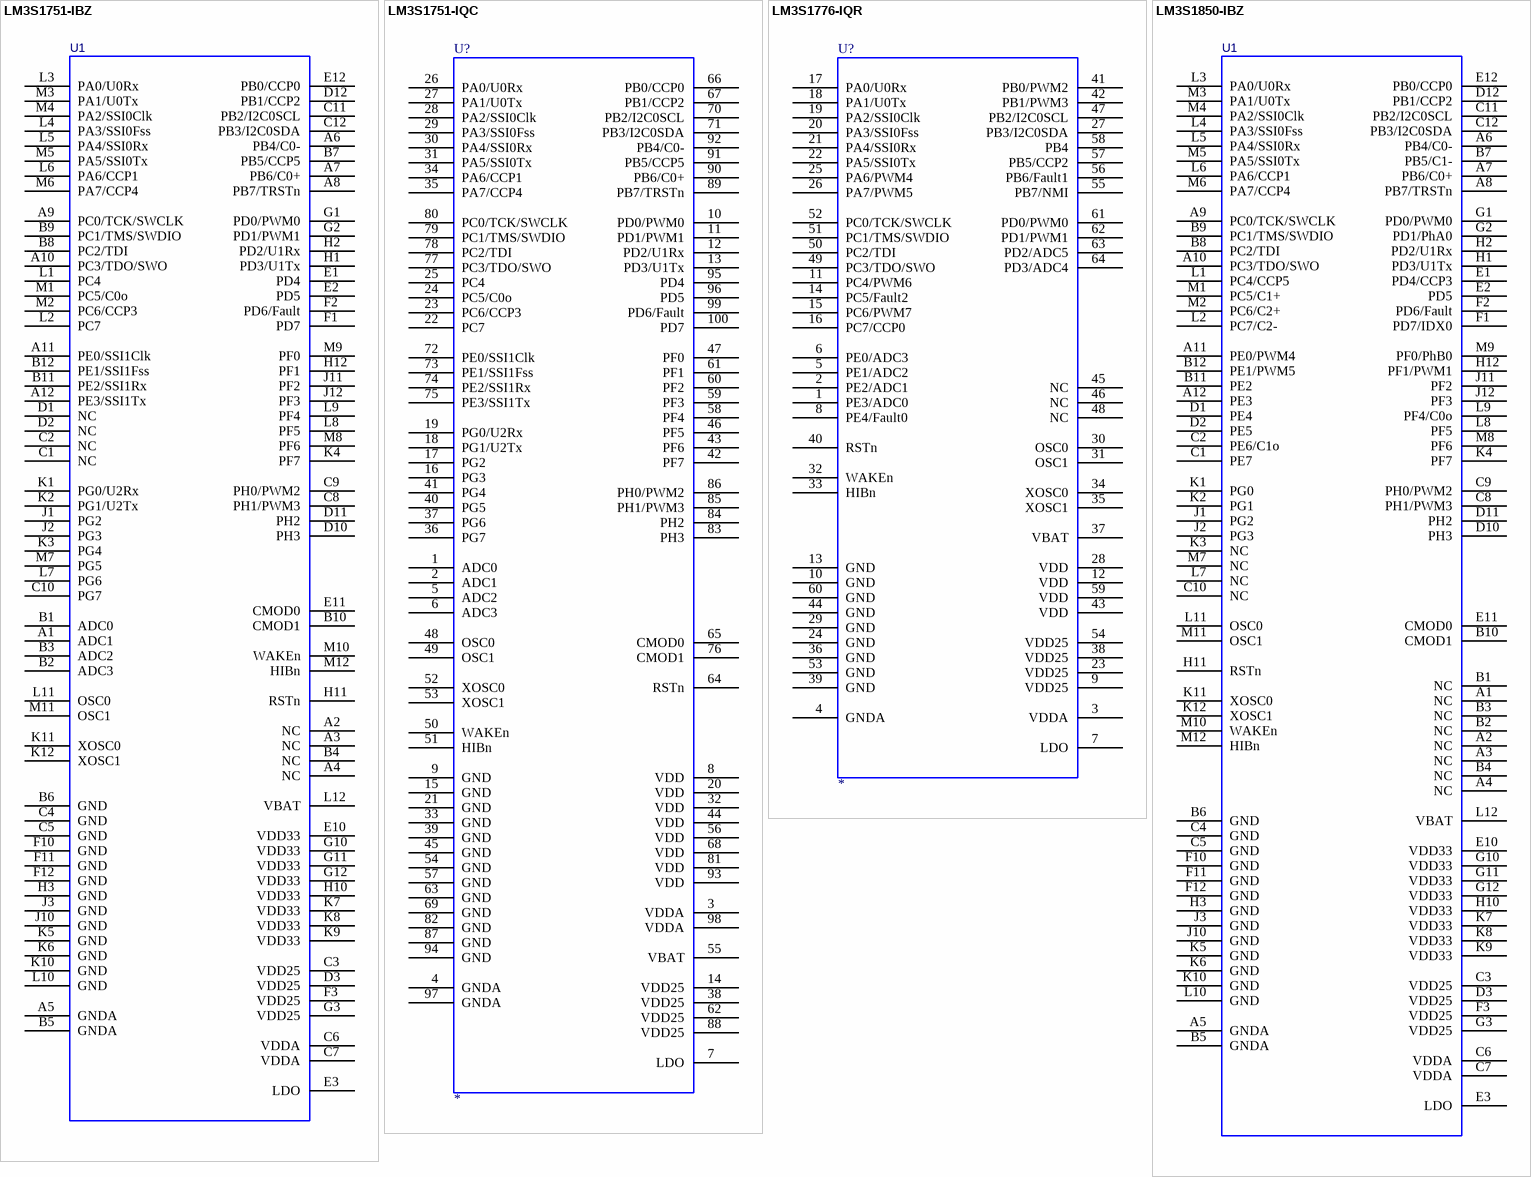
[diagram p13: symbols LM3S1751-IBZ to LM3S1850-IBZ]

## LM3S1751-IBZ
designator U1
Stellaris ARM Cortex-M3 Microcontroller; MFG: Luminary Micro; Ordering: LM3S1751-IBZ; LMI Class: Fury
footprint BGA108C80P12X12_1000X1000X150 (BGA, 108-Leads, Body 10.0x10.0mm,  Pitch 0.80mm)
pins: A1 ADC1, A2 NC, A3 NC, A4 NC, A5 GNDA, A6 PB4/C0-, A7 PB6/C0+, A8 PB7/TRSTn, A9 PC0/TCK/SWCLK, A10 PC3/TDO/SWO, A11 PE0/SSI1Clk, A12 PE3/SSI1Tx, B1 ADC0, B2 ADC3, B3 ADC2, B4 NC, B5 GNDA, B6 GND, B7 PB5/CCP5, B8 PC2/TDI, B9 PC1/TMS/SWDIO, B10 CMOD1, B11 PE2/SSI1Rx, B12 PE1/SSI1Fss, C1 NC, C2 NC, C3 VDD25, C4 GND, C5 GND, C6 VDDA, C7 VDDA, C8 PH1/PWM3, C9 PH0/PWM2, C10 PG7, C11 PB2/I2C0SCL, C12 PB3/I2C0SDA, D1 NC, D2 NC, D3 VDD25, D10 PH3, D11 PH2, D12 PB1/CCP2, E1 PD4, E2 PD5, E3 LDO, E10 VDD33, E11 CMOD0, E12 PB0/CCP0, F1 PD7, F2 PD6/Fault, F3 VDD25, F10 GND, F11 GND, F12 GND, G1 PD0/PWM0, G2 PD1/PWM1, G3 VDD25, G10 VDD33, G11 VDD33, G12 VDD33, H1 PD3/U1Tx, H2 PD2/U1Rx, H3 GND, H10 VDD33, H11 RSTn, H12 PF1, J1 PG2, J2 PG3, J3 GND, J10 GND, J11 PF2, J12 PF3, K1 PG0/U2Rx, K2 PG1/U2Tx, K3 PG4, K4 PF7, K5 GND, K6 GND, K7 VDD33, K8 VDD33, K9 VDD33, K10 GND, K11 XOSC0, K12 XOSC1, L1 PC4, L2 PC7, L3 PA0/U0Rx, L4 PA3/SSI0Fss, L5 PA4/SSI0Rx, L6 PA6/CCP1, L7 PG6, L8 PF5, L9 PF4, L10 GND, L11 OSC0, L12 VBAT, M1 PC5/C0o, M2 PC6/CCP3, M3 PA1/U0Tx, M4 PA2/SSI0Clk, M5 PA5/SSI0Tx, M6 PA7/CCP4, M7 PG5, M8 PF6, M9 PF0, M10 WAKEn, M11 OSC1, M12 HIBn

## LM3S1751-IQC
designator U?
Stellaris ARM Cortex-M3 Microcontroller; MFG: Luminary Micro; Ordering: LM3S1751-IQC; LMI Class: Fury
footprint QFP50P1600X1600X160-100N
pins: 1 ADC0, 2 ADC1, 3 VDDA, 4 GNDA, 5 ADC2, 6 ADC3, 7 LDO, 8 VDD, 9 GND, 10 PD0/PWM0, 11 PD1/PWM1, 12 PD2/U1Rx, 13 PD3/U1Tx, 14 VDD25, 15 GND, 16 PG3, 17 PG2, 18 PG1/U2Tx, 19 PG0/U2Rx, 20 VDD, 21 GND, 22 PC7, 23 PC6/CCP3, 24 PC5/C0o, 25 PC4, 26 PA0/U0Rx, 27 PA1/U0Tx, 28 PA2/SSI0Clk, 29 PA3/SSI0Fss, 30 PA4/SSI0Rx, 31 PA5/SSI0Tx, 32 VDD, 33 GND, 34 PA6/CCP1, 35 PA7/CCP4, 36 PG7, 37 PG6, 38 VDD25, 39 GND, 40 PG5, 41 PG4, 42 PF7, 43 PF6, 44 VDD, 45 GND, 46 PF5, 47 PF0, 48 OSC0, 49 OSC1, 50 WAKEn, 51 HIBn, 52 XOSC0, 53 XOSC1, 54 GND, 55 VBAT, 56 VDD, 57 GND, 58 PF4, 59 PF3, 60 PF2, 61 PF1, 62 VDD25, 63 GND, 64 RSTn, 65 CMOD0, 66 PB0/CCP0, 67 PB1/CCP2, 68 VDD, 69 GND, 70 PB2/I2C0SCL, 71 PB3/I2C0SDA, 72 PE0/SSI1Clk, 73 PE1/SSI1Fss, 74 PE2/SSI1Rx, 75 PE3/SSI1Tx, 76 CMOD1, 77 PC3/TDO/SWO, 78 PC2/TDI, 79 PC1/TMS/SWDIO, 80 PC0/TCK/SWCLK, 81 VDD, 82 GND, 83 PH3, 84 PH2, 85 PH1/PWM3, 86 PH0/PWM2, 87 GND, 88 VDD25, 89 PB7/TRSTn, 90 PB6/C0+, 91 PB5/CCP5, 92 PB4/C0-, 93 VDD, 94 GND, 95 PD4, 96 PD5, 97 GNDA, 98 VDDA, 99 PD6/Fault, 100 PD7

## LM3S1776-IQR
designator U?
Stellaris ARM Cortex-M3 Microcontroller; MFG: Luminary Micro; Ordering: LM3S1776-IQR; LMI Class: Dust Devil
footprint QFP50P1200X1200X160-64N
pins: 1 PE3/ADC0, 2 PE2/ADC1, 3 VDDA, 4 GNDA, 5 PE1/ADC2, 6 PE0/ADC3, 7 LDO, 8 PE4/Fault0, 9 VDD25, 10 GND, 11 PC4/PWM6, 12 VDD, 13 GND, 14 PC5/Fault2, 15 PC6/PWM7, 16 PC7/CCP0, 17 PA0/U0Rx, 18 PA1/U0Tx, 19 PA2/SSI0Clk, 20 PA3/SSI0Fss, 21 PA4/SSI0Rx, 22 PA5/SSI0Tx, 23 VDD25, 24 GND, 25 PA6/PWM4, 26 PA7/PWM5, 27 PB3/I2C0SDA, 28 VDD, 29 GND, 30 OSC0, 31 OSC1, 32 WAKEn, 33 HIBn, 34 XOSC0, 35 XOSC1, 36 GND, 37 VBAT, 38 VDD25, 39 GND, 40 RSTn, 41 PB0/PWM2, 42 PB1/PWM3, 43 VDD, 44 GND, 45 NC, 46 NC, 47 PB2/I2C0SCL, 48 NC, 49 PC3/TDO/SWO, 50 PC2/TDI, 51 PC1/TMS/SWDIO, 52 PC0/TCK/SWCLK, 53 GND, 54 VDD25, 55 PB7/NMI, 56 PB6/Fault1, 57 PB5/CCP2, 58 PB4, 59 VDD, 60 GND, 61 PD0/PWM0, 62 PD1/PWM1, 63 PD2/ADC5, 64 PD3/ADC4

## LM3S1850-IBZ
designator U1
Stellaris ARM Cortex-M3 Microcontroller; MFG: Luminary Micro; Ordering: LM3S1850-IBZ; LMI Class: Fury
footprint BGA108C80P12X12_1000X1000X150 (BGA, 108-Leads, Body 10.0x10.0mm,  Pitch 0.80mm)
pins: A1 NC, A2 NC, A3 NC, A4 NC, A5 GNDA, A6 PB4/C0-, A7 PB6/C0+, A8 PB7/TRSTn, A9 PC0/TCK/SWCLK, A10 PC3/TDO/SWO, A11 PE0/PWM4, A12 PE3, B1 NC, B2 NC, B3 NC, B4 NC, B5 GNDA, B6 GND, B7 PB5/C1-, B8 PC2/TDI, B9 PC1/TMS/SWDIO, B10 CMOD1, B11 PE2, B12 PE1/PWM5, C1 PE7, C2 PE6/C1o, C3 VDD25, C4 GND, C5 GND, C6 VDDA, C7 VDDA, C8 PH1/PWM3, C9 PH0/PWM2, C10 NC, C11 PB2/I2C0SCL, C12 PB3/I2C0SDA, D1 PE4, D2 PE5, D3 VDD25, D10 PH3, D11 PH2, D12 PB1/CCP2, E1 PD4/CCP3, E2 PD5, E3 LDO, E10 VDD33, E11 CMOD0, E12 PB0/CCP0, F1 PD7/IDX0, F2 PD6/Fault, F3 VDD25, F10 GND, F11 GND, F12 GND, G1 PD0/PWM0, G2 PD1/PhA0, G3 VDD25, G10 VDD33, G11 VDD33, G12 VDD33, H1 PD3/U1Tx, H2 PD2/U1Rx, H3 GND, H10 VDD33, H11 RSTn, H12 PF1/PWM1, J1 PG2, J2 PG3, J3 GND, J10 GND, J11 PF2, J12 PF3, K1 PG0, K2 PG1, K3 NC, K4 PF7, K5 GND, K6 GND, K7 VDD33, K8 VDD33, K9 VDD33, K10 GND, K11 XOSC0, K12 XOSC1, L1 PC4/CCP5, L2 PC7/C2-, L3 PA0/U0Rx, L4 PA3/SSI0Fss, L5 PA4/SSI0Rx, L6 PA6/CCP1, L7 NC, L8 PF5, L9 PF4/C0o, L10 GND, L11 OSC0, L12 VBAT, M1 PC5/C1+, M2 PC6/C2+, M3 PA1/U0Tx, M4 PA2/SSI0Clk, M5 PA5/SSI0Tx, M6 PA7/CCP4, M7 NC, M8 PF6, M9 PF0/PhB0, M10 WAKEn, M11 OSC1, M12 HIBn

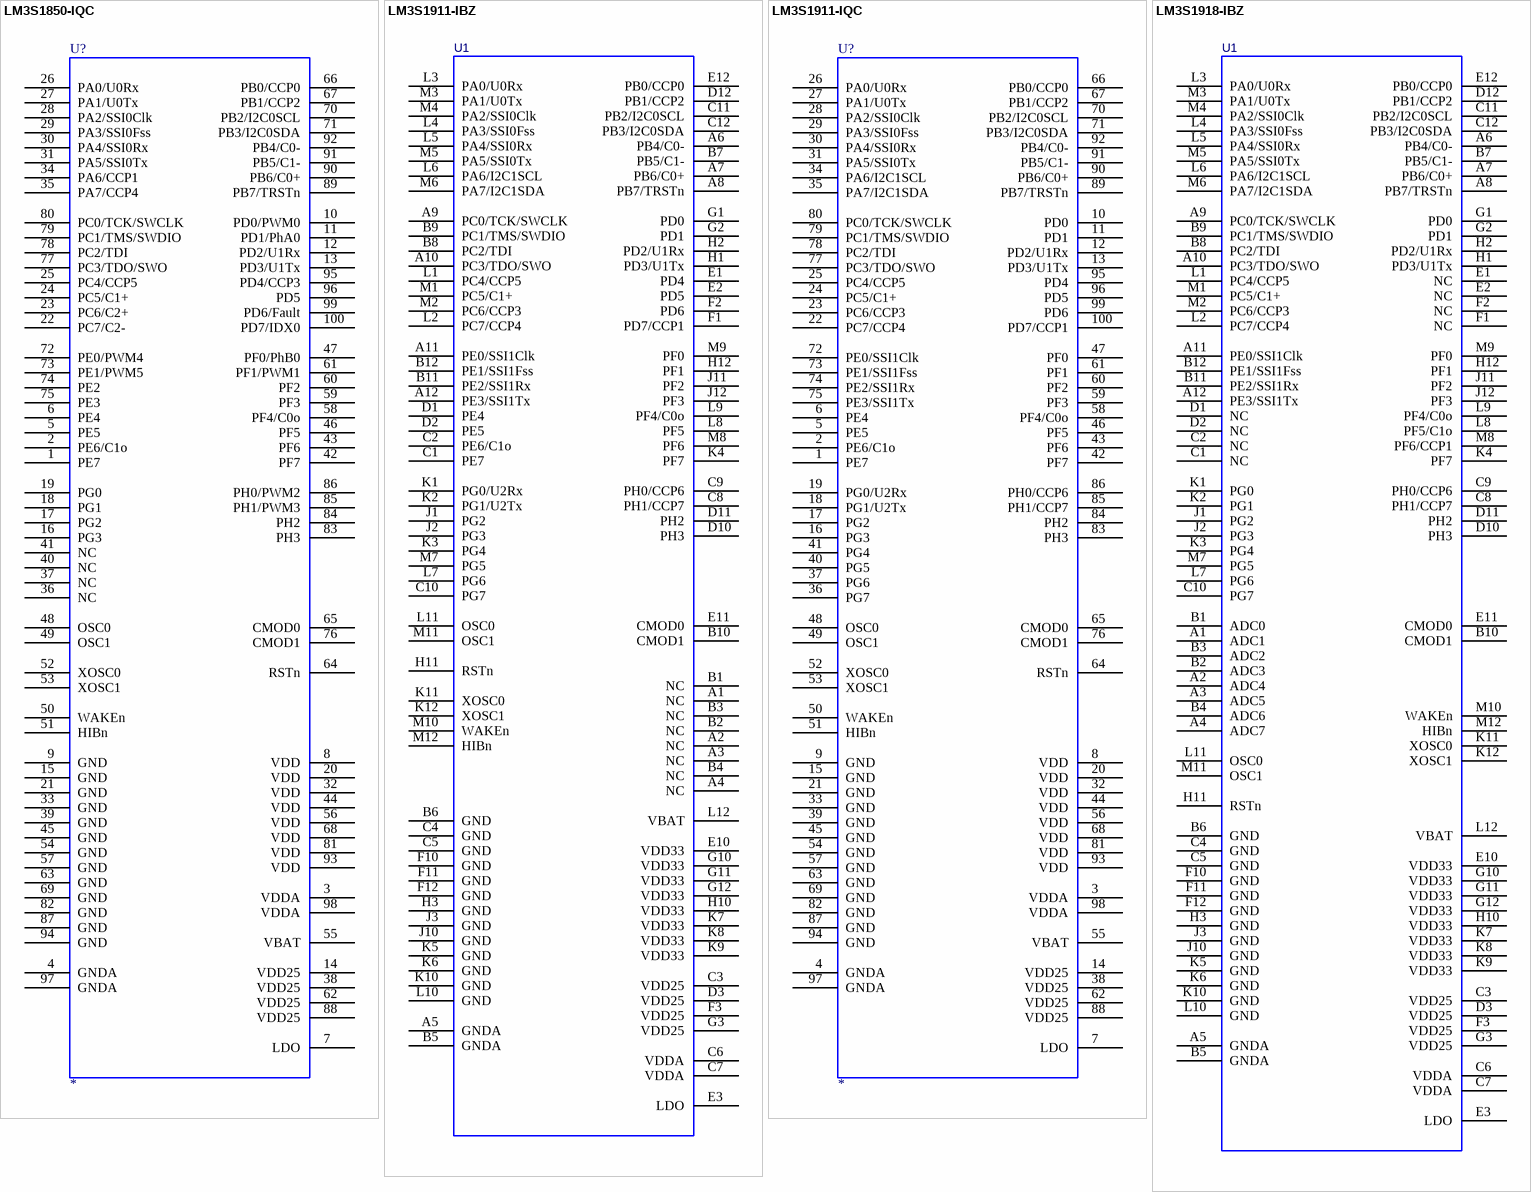
[diagram p14: symbols LM3S1850-IQC to LM3S1918-IBZ]

## LM3S1850-IQC
designator U?
Stellaris ARM Cortex-M3 Microcontroller; MFG: Luminary Micro; Ordering: LM3S1850-IQC; LMI Class: Fury
footprint QFP50P1600X1600X160-100N
pins: 1 PE7, 2 PE6/C1o, 3 VDDA, 4 GNDA, 5 PE5, 6 PE4, 7 LDO, 8 VDD, 9 GND, 10 PD0/PWM0, 11 PD1/PhA0, 12 PD2/U1Rx, 13 PD3/U1Tx, 14 VDD25, 15 GND, 16 PG3, 17 PG2, 18 PG1, 19 PG0, 20 VDD, 21 GND, 22 PC7/C2-, 23 PC6/C2+, 24 PC5/C1+, 25 PC4/CCP5, 26 PA0/U0Rx, 27 PA1/U0Tx, 28 PA2/SSI0Clk, 29 PA3/SSI0Fss, 30 PA4/SSI0Rx, 31 PA5/SSI0Tx, 32 VDD, 33 GND, 34 PA6/CCP1, 35 PA7/CCP4, 36 NC, 37 NC, 38 VDD25, 39 GND, 40 NC, 41 NC, 42 PF7, 43 PF6, 44 VDD, 45 GND, 46 PF5, 47 PF0/PhB0, 48 OSC0, 49 OSC1, 50 WAKEn, 51 HIBn, 52 XOSC0, 53 XOSC1, 54 GND, 55 VBAT, 56 VDD, 57 GND, 58 PF4/C0o, 59 PF3, 60 PF2, 61 PF1/PWM1, 62 VDD25, 63 GND, 64 RSTn, 65 CMOD0, 66 PB0/CCP0, 67 PB1/CCP2, 68 VDD, 69 GND, 70 PB2/I2C0SCL, 71 PB3/I2C0SDA, 72 PE0/PWM4, 73 PE1/PWM5, 74 PE2, 75 PE3, 76 CMOD1, 77 PC3/TDO/SWO, 78 PC2/TDI, 79 PC1/TMS/SWDIO, 80 PC0/TCK/SWCLK, 81 VDD, 82 GND, 83 PH3, 84 PH2, 85 PH1/PWM3, 86 PH0/PWM2, 87 GND, 88 VDD25, 89 PB7/TRSTn, 90 PB6/C0+, 91 PB5/C1-, 92 PB4/C0-, 93 VDD, 94 GND, 95 PD4/CCP3, 96 PD5, 97 GNDA, 98 VDDA, 99 PD6/Fault, 100 PD7/IDX0

## LM3S1911-IBZ
designator U1
Stellaris ARM Cortex-M3 Microcontroller; MFG: Luminary Micro; Ordering: LM3S1911-IBZ; LMI Class: Fury
footprint BGA108C80P12X12_1000X1000X150 (BGA, 108-Leads, Body 10.0x10.0mm,  Pitch 0.80mm)
pins: A1 NC, A2 NC, A3 NC, A4 NC, A5 GNDA, A6 PB4/C0-, A7 PB6/C0+, A8 PB7/TRSTn, A9 PC0/TCK/SWCLK, A10 PC3/TDO/SWO, A11 PE0/SSI1Clk, A12 PE3/SSI1Tx, B1 NC, B2 NC, B3 NC, B4 NC, B5 GNDA, B6 GND, B7 PB5/C1-, B8 PC2/TDI, B9 PC1/TMS/SWDIO, B10 CMOD1, B11 PE2/SSI1Rx, B12 PE1/SSI1Fss, C1 PE7, C2 PE6/C1o, C3 VDD25, C4 GND, C5 GND, C6 VDDA, C7 VDDA, C8 PH1/CCP7, C9 PH0/CCP6, C10 PG7, C11 PB2/I2C0SCL, C12 PB3/I2C0SDA, D1 PE4, D2 PE5, D3 VDD25, D10 PH3, D11 PH2, D12 PB1/CCP2, E1 PD4, E2 PD5, E3 LDO, E10 VDD33, E11 CMOD0, E12 PB0/CCP0, F1 PD7/CCP1, F2 PD6, F3 VDD25, F10 GND, F11 GND, F12 GND, G1 PD0, G2 PD1, G3 VDD25, G10 VDD33, G11 VDD33, G12 VDD33, H1 PD3/U1Tx, H2 PD2/U1Rx, H3 GND, H10 VDD33, H11 RSTn, H12 PF1, J1 PG2, J2 PG3, J3 GND, J10 GND, J11 PF2, J12 PF3, K1 PG0/U2Rx, K2 PG1/U2Tx, K3 PG4, K4 PF7, K5 GND, K6 GND, K7 VDD33, K8 VDD33, K9 VDD33, K10 GND, K11 XOSC0, K12 XOSC1, L1 PC4/CCP5, L2 PC7/CCP4, L3 PA0/U0Rx, L4 PA3/SSI0Fss, L5 PA4/SSI0Rx, L6 PA6/I2C1SCL, L7 PG6, L8 PF5, L9 PF4/C0o, L10 GND, L11 OSC0, L12 VBAT, M1 PC5/C1+, M2 PC6/CCP3, M3 PA1/U0Tx, M4 PA2/SSI0Clk, M5 PA5/SSI0Tx, M6 PA7/I2C1SDA, M7 PG5, M8 PF6, M9 PF0, M10 WAKEn, M11 OSC1, M12 HIBn

## LM3S1911-IQC
designator U?
Stellaris ARM Cortex-M3 Microcontroller; MFG: Luminary Micro; Ordering: LM3S1911-IQC; LMI Class: Fury
footprint QFP50P1600X1600X160-100N
pins: 1 PE7, 2 PE6/C1o, 3 VDDA, 4 GNDA, 5 PE5, 6 PE4, 7 LDO, 8 VDD, 9 GND, 10 PD0, 11 PD1, 12 PD2/U1Rx, 13 PD3/U1Tx, 14 VDD25, 15 GND, 16 PG3, 17 PG2, 18 PG1/U2Tx, 19 PG0/U2Rx, 20 VDD, 21 GND, 22 PC7/CCP4, 23 PC6/CCP3, 24 PC5/C1+, 25 PC4/CCP5, 26 PA0/U0Rx, 27 PA1/U0Tx, 28 PA2/SSI0Clk, 29 PA3/SSI0Fss, 30 PA4/SSI0Rx, 31 PA5/SSI0Tx, 32 VDD, 33 GND, 34 PA6/I2C1SCL, 35 PA7/I2C1SDA, 36 PG7, 37 PG6, 38 VDD25, 39 GND, 40 PG5, 41 PG4, 42 PF7, 43 PF6, 44 VDD, 45 GND, 46 PF5, 47 PF0, 48 OSC0, 49 OSC1, 50 WAKEn, 51 HIBn, 52 XOSC0, 53 XOSC1, 54 GND, 55 VBAT, 56 VDD, 57 GND, 58 PF4/C0o, 59 PF3, 60 PF2, 61 PF1, 62 VDD25, 63 GND, 64 RSTn, 65 CMOD0, 66 PB0/CCP0, 67 PB1/CCP2, 68 VDD, 69 GND, 70 PB2/I2C0SCL, 71 PB3/I2C0SDA, 72 PE0/SSI1Clk, 73 PE1/SSI1Fss, 74 PE2/SSI1Rx, 75 PE3/SSI1Tx, 76 CMOD1, 77 PC3/TDO/SWO, 78 PC2/TDI, 79 PC1/TMS/SWDIO, 80 PC0/TCK/SWCLK, 81 VDD, 82 GND, 83 PH3, 84 PH2, 85 PH1/CCP7, 86 PH0/CCP6, 87 GND, 88 VDD25, 89 PB7/TRSTn, 90 PB6/C0+, 91 PB5/C1-, 92 PB4/C0-, 93 VDD, 94 GND, 95 PD4, 96 PD5, 97 GNDA, 98 VDDA, 99 PD6, 100 PD7/CCP1

## LM3S1918-IBZ
designator U1
Stellaris ARM Cortex-M3 Microcontroller; MFG: Luminary Micro; Ordering: LM3S1918-IBZ; LMI Class: Fury
footprint BGA108C80P12X12_1000X1000X150 (BGA, 108-Leads, Body 10.0x10.0mm,  Pitch 0.80mm)
pins: A1 ADC1, A2 ADC4, A3 ADC5, A4 ADC7, A5 GNDA, A6 PB4/C0-, A7 PB6/C0+, A8 PB7/TRSTn, A9 PC0/TCK/SWCLK, A10 PC3/TDO/SWO, A11 PE0/SSI1Clk, A12 PE3/SSI1Tx, B1 ADC0, B2 ADC3, B3 ADC2, B4 ADC6, B5 GNDA, B6 GND, B7 PB5/C1-, B8 PC2/TDI, B9 PC1/TMS/SWDIO, B10 CMOD1, B11 PE2/SSI1Rx, B12 PE1/SSI1Fss, C1 NC, C2 NC, C3 VDD25, C4 GND, C5 GND, C6 VDDA, C7 VDDA, C8 PH1/CCP7, C9 PH0/CCP6, C10 PG7, C11 PB2/I2C0SCL, C12 PB3/I2C0SDA, D1 NC, D2 NC, D3 VDD25, D10 PH3, D11 PH2, D12 PB1/CCP2, E1 NC, E2 NC, E3 LDO, E10 VDD33, E11 CMOD0, E12 PB0/CCP0, F1 NC, F2 NC, F3 VDD25, F10 GND, F11 GND, F12 GND, G1 PD0, G2 PD1, G3 VDD25, G10 VDD33, G11 VDD33, G12 VDD33, H1 PD3/U1Tx, H2 PD2/U1Rx, H3 GND, H10 VDD33, H11 RSTn, H12 PF1, J1 PG2, J2 PG3, J3 GND, J10 GND, J11 PF2, J12 PF3, K1 PG0, K2 PG1, K3 PG4, K4 PF7, K5 GND, K6 GND, K7 VDD33, K8 VDD33, K9 VDD33, K10 GND, K11 XOSC0, K12 XOSC1, L1 PC4/CCP5, L2 PC7/CCP4, L3 PA0/U0Rx, L4 PA3/SSI0Fss, L5 PA4/SSI0Rx, L6 PA6/I2C1SCL, L7 PG6, L8 PF5/C1o, L9 PF4/C0o, L10 GND, L11 OSC0, L12 VBAT, M1 PC5/C1+, M2 PC6/CCP3, M3 PA1/U0Tx, M4 PA2/SSI0Clk, M5 PA5/SSI0Tx, M6 PA7/I2C1SDA, M7 PG5, M8 PF6/CCP1, M9 PF0, M10 WAKEn, M11 OSC1, M12 HIBn

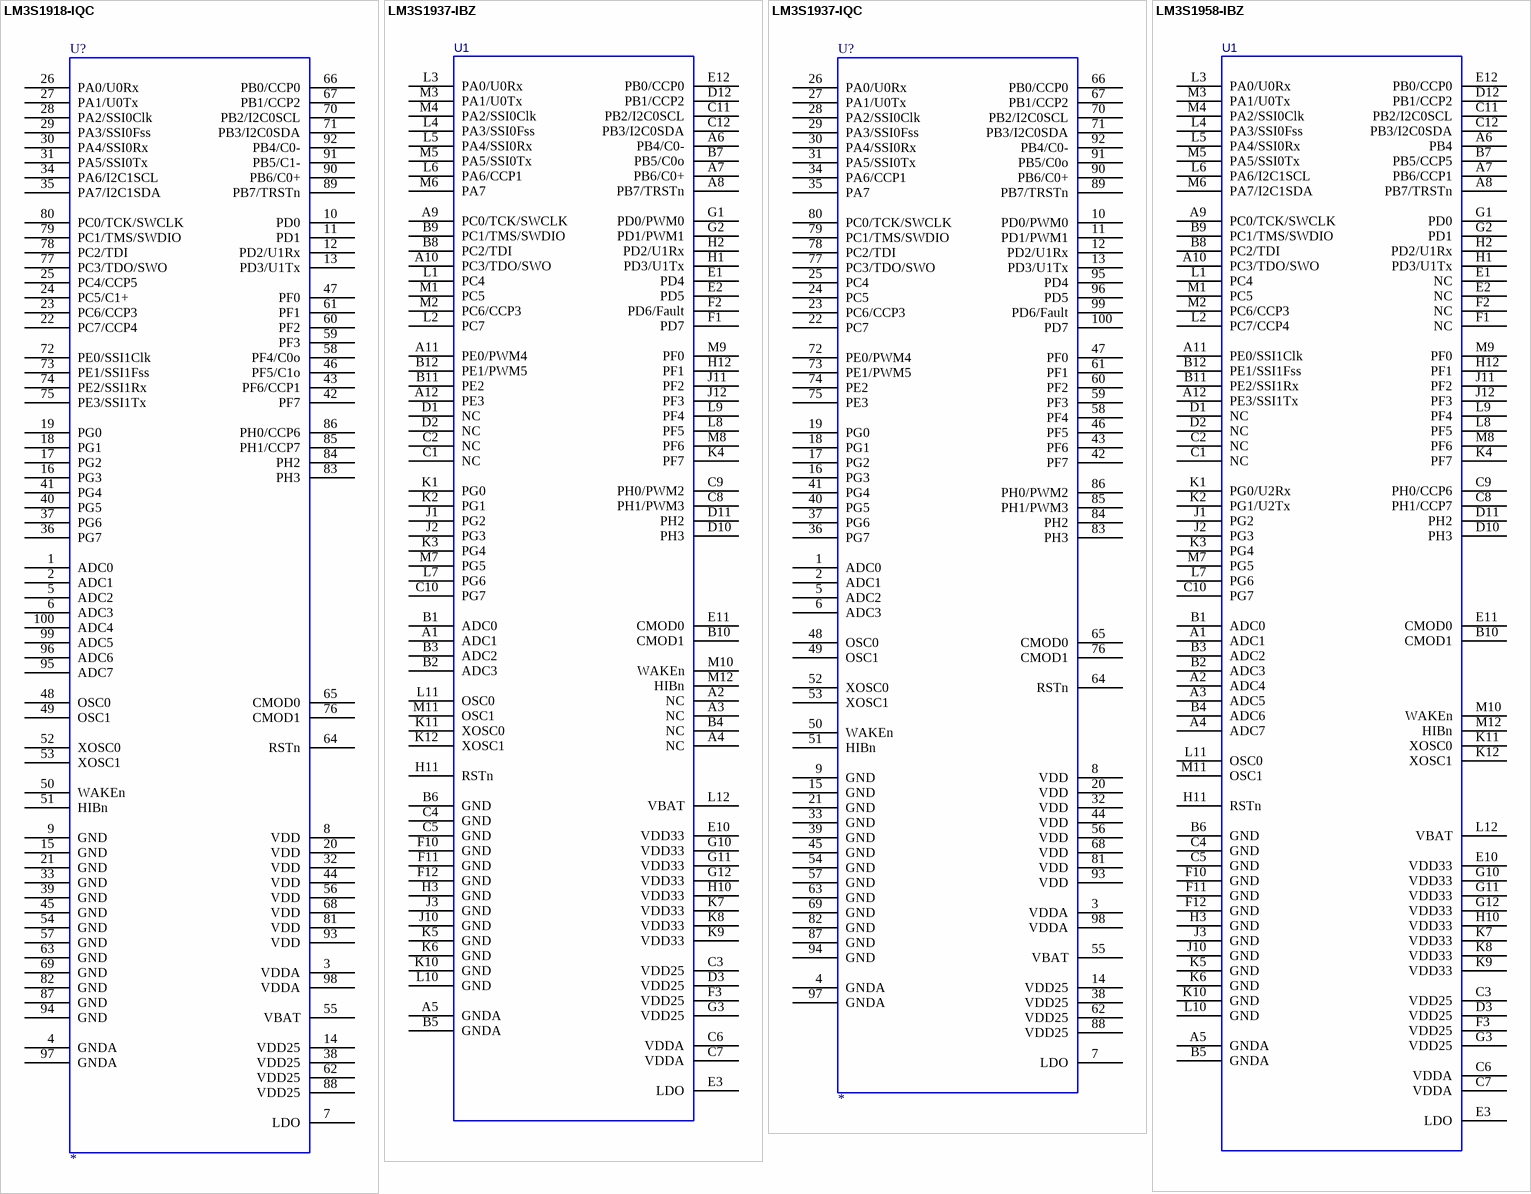
[diagram p15: symbols LM3S1918-IQC to LM3S1958-IBZ]

## LM3S1918-IQC
designator U?
Stellaris ARM Cortex-M3 Microcontroller; MFG: Luminary Micro; Ordering: LM3S1918-IQC; LMI Class: Fury
footprint QFP50P1600X1600X160-100N
pins: 1 ADC0, 2 ADC1, 3 VDDA, 4 GNDA, 5 ADC2, 6 ADC3, 7 LDO, 8 VDD, 9 GND, 10 PD0, 11 PD1, 12 PD2/U1Rx, 13 PD3/U1Tx, 14 VDD25, 15 GND, 16 PG3, 17 PG2, 18 PG1, 19 PG0, 20 VDD, 21 GND, 22 PC7/CCP4, 23 PC6/CCP3, 24 PC5/C1+, 25 PC4/CCP5, 26 PA0/U0Rx, 27 PA1/U0Tx, 28 PA2/SSI0Clk, 29 PA3/SSI0Fss, 30 PA4/SSI0Rx, 31 PA5/SSI0Tx, 32 VDD, 33 GND, 34 PA6/I2C1SCL, 35 PA7/I2C1SDA, 36 PG7, 37 PG6, 38 VDD25, 39 GND, 40 PG5, 41 PG4, 42 PF7, 43 PF6/CCP1, 44 VDD, 45 GND, 46 PF5/C1o, 47 PF0, 48 OSC0, 49 OSC1, 50 WAKEn, 51 HIBn, 52 XOSC0, 53 XOSC1, 54 GND, 55 VBAT, 56 VDD, 57 GND, 58 PF4/C0o, 59 PF3, 60 PF2, 61 PF1, 62 VDD25, 63 GND, 64 RSTn, 65 CMOD0, 66 PB0/CCP0, 67 PB1/CCP2, 68 VDD, 69 GND, 70 PB2/I2C0SCL, 71 PB3/I2C0SDA, 72 PE0/SSI1Clk, 73 PE1/SSI1Fss, 74 PE2/SSI1Rx, 75 PE3/SSI1Tx, 76 CMOD1, 77 PC3/TDO/SWO, 78 PC2/TDI, 79 PC1/TMS/SWDIO, 80 PC0/TCK/SWCLK, 81 VDD, 82 GND, 83 PH3, 84 PH2, 85 PH1/CCP7, 86 PH0/CCP6, 87 GND, 88 VDD25, 89 PB7/TRSTn, 90 PB6/C0+, 91 PB5/C1-, 92 PB4/C0-, 93 VDD, 94 GND, 95 ADC7, 96 ADC6, 97 GNDA, 98 VDDA, 99 ADC5, 100 ADC4

## LM3S1937-IBZ
designator U1
Stellaris ARM Cortex-M3 Microcontroller; MFG: Luminary Micro; Ordering: LM3S1937-IBZ; LMI Class: Fury
footprint BGA108C80P12X12_1000X1000X150 (BGA, 108-Leads, Body 10.0x10.0mm,  Pitch 0.80mm)
pins: A1 ADC1, A2 NC, A3 NC, A4 NC, A5 GNDA, A6 PB4/C0-, A7 PB6/C0+, A8 PB7/TRSTn, A9 PC0/TCK/SWCLK, A10 PC3/TDO/SWO, A11 PE0/PWM4, A12 PE3, B1 ADC0, B2 ADC3, B3 ADC2, B4 NC, B5 GNDA, B6 GND, B7 PB5/C0o, B8 PC2/TDI, B9 PC1/TMS/SWDIO, B10 CMOD1, B11 PE2, B12 PE1/PWM5, C1 NC, C2 NC, C3 VDD25, C4 GND, C5 GND, C6 VDDA, C7 VDDA, C8 PH1/PWM3, C9 PH0/PWM2, C10 PG7, C11 PB2/I2C0SCL, C12 PB3/I2C0SDA, D1 NC, D2 NC, D3 VDD25, D10 PH3, D11 PH2, D12 PB1/CCP2, E1 PD4, E2 PD5, E3 LDO, E10 VDD33, E11 CMOD0, E12 PB0/CCP0, F1 PD7, F2 PD6/Fault, F3 VDD25, F10 GND, F11 GND, F12 GND, G1 PD0/PWM0, G2 PD1/PWM1, G3 VDD25, G10 VDD33, G11 VDD33, G12 VDD33, H1 PD3/U1Tx, H2 PD2/U1Rx, H3 GND, H10 VDD33, H11 RSTn, H12 PF1, J1 PG2, J2 PG3, J3 GND, J10 GND, J11 PF2, J12 PF3, K1 PG0, K2 PG1, K3 PG4, K4 PF7, K5 GND, K6 GND, K7 VDD33, K8 VDD33, K9 VDD33, K10 GND, K11 XOSC0, K12 XOSC1, L1 PC4, L2 PC7, L3 PA0/U0Rx, L4 PA3/SSI0Fss, L5 PA4/SSI0Rx, L6 PA6/CCP1, L7 PG6, L8 PF5, L9 PF4, L10 GND, L11 OSC0, L12 VBAT, M1 PC5, M2 PC6/CCP3, M3 PA1/U0Tx, M4 PA2/SSI0Clk, M5 PA5/SSI0Tx, M6 PA7, M7 PG5, M8 PF6, M9 PF0, M10 WAKEn, M11 OSC1, M12 HIBn

## LM3S1937-IQC
designator U?
Stellaris ARM Cortex-M3 Microcontroller; MFG: Luminary Micro; Ordering: LM3S1937-IQC; LMI Class: Fury
footprint QFP50P1600X1600X160-100N
pins: 1 ADC0, 2 ADC1, 3 VDDA, 4 GNDA, 5 ADC2, 6 ADC3, 7 LDO, 8 VDD, 9 GND, 10 PD0/PWM0, 11 PD1/PWM1, 12 PD2/U1Rx, 13 PD3/U1Tx, 14 VDD25, 15 GND, 16 PG3, 17 PG2, 18 PG1, 19 PG0, 20 VDD, 21 GND, 22 PC7, 23 PC6/CCP3, 24 PC5, 25 PC4, 26 PA0/U0Rx, 27 PA1/U0Tx, 28 PA2/SSI0Clk, 29 PA3/SSI0Fss, 30 PA4/SSI0Rx, 31 PA5/SSI0Tx, 32 VDD, 33 GND, 34 PA6/CCP1, 35 PA7, 36 PG7, 37 PG6, 38 VDD25, 39 GND, 40 PG5, 41 PG4, 42 PF7, 43 PF6, 44 VDD, 45 GND, 46 PF5, 47 PF0, 48 OSC0, 49 OSC1, 50 WAKEn, 51 HIBn, 52 XOSC0, 53 XOSC1, 54 GND, 55 VBAT, 56 VDD, 57 GND, 58 PF4, 59 PF3, 60 PF2, 61 PF1, 62 VDD25, 63 GND, 64 RSTn, 65 CMOD0, 66 PB0/CCP0, 67 PB1/CCP2, 68 VDD, 69 GND, 70 PB2/I2C0SCL, 71 PB3/I2C0SDA, 72 PE0/PWM4, 73 PE1/PWM5, 74 PE2, 75 PE3, 76 CMOD1, 77 PC3/TDO/SWO, 78 PC2/TDI, 79 PC1/TMS/SWDIO, 80 PC0/TCK/SWCLK, 81 VDD, 82 GND, 83 PH3, 84 PH2, 85 PH1/PWM3, 86 PH0/PWM2, 87 GND, 88 VDD25, 89 PB7/TRSTn, 90 PB6/C0+, 91 PB5/C0o, 92 PB4/C0-, 93 VDD, 94 GND, 95 PD4, 96 PD5, 97 GNDA, 98 VDDA, 99 PD6/Fault, 100 PD7

## LM3S1958-IBZ
designator U1
Stellaris ARM Cortex-M3 Microcontroller; MFG: Luminary Micro; Ordering: LM3S1958-IBZ; LMI Class: Fury
footprint BGA108C80P12X12_1000X1000X150 (BGA, 108-Leads, Body 10.0x10.0mm,  Pitch 0.80mm)
pins: A1 ADC1, A2 ADC4, A3 ADC5, A4 ADC7, A5 GNDA, A6 PB4, A7 PB6/CCP1, A8 PB7/TRSTn, A9 PC0/TCK/SWCLK, A10 PC3/TDO/SWO, A11 PE0/SSI1Clk, A12 PE3/SSI1Tx, B1 ADC0, B2 ADC3, B3 ADC2, B4 ADC6, B5 GNDA, B6 GND, B7 PB5/CCP5, B8 PC2/TDI, B9 PC1/TMS/SWDIO, B10 CMOD1, B11 PE2/SSI1Rx, B12 PE1/SSI1Fss, C1 NC, C2 NC, C3 VDD25, C4 GND, C5 GND, C6 VDDA, C7 VDDA, C8 PH1/CCP7, C9 PH0/CCP6, C10 PG7, C11 PB2/I2C0SCL, C12 PB3/I2C0SDA, D1 NC, D2 NC, D3 VDD25, D10 PH3, D11 PH2, D12 PB1/CCP2, E1 NC, E2 NC, E3 LDO, E10 VDD33, E11 CMOD0, E12 PB0/CCP0, F1 NC, F2 NC, F3 VDD25, F10 GND, F11 GND, F12 GND, G1 PD0, G2 PD1, G3 VDD25, G10 VDD33, G11 VDD33, G12 VDD33, H1 PD3/U1Tx, H2 PD2/U1Rx, H3 GND, H10 VDD33, H11 RSTn, H12 PF1, J1 PG2, J2 PG3, J3 GND, J10 GND, J11 PF2, J12 PF3, K1 PG0/U2Rx, K2 PG1/U2Tx, K3 PG4, K4 PF7, K5 GND, K6 GND, K7 VDD33, K8 VDD33, K9 VDD33, K10 GND, K11 XOSC0, K12 XOSC1, L1 PC4, L2 PC7/CCP4, L3 PA0/U0Rx, L4 PA3/SSI0Fss, L5 PA4/SSI0Rx, L6 PA6/I2C1SCL, L7 PG6, L8 PF5, L9 PF4, L10 GND, L11 OSC0, L12 VBAT, M1 PC5, M2 PC6/CCP3, M3 PA1/U0Tx, M4 PA2/SSI0Clk, M5 PA5/SSI0Tx, M6 PA7/I2C1SDA, M7 PG5, M8 PF6, M9 PF0, M10 WAKEn, M11 OSC1, M12 HIBn

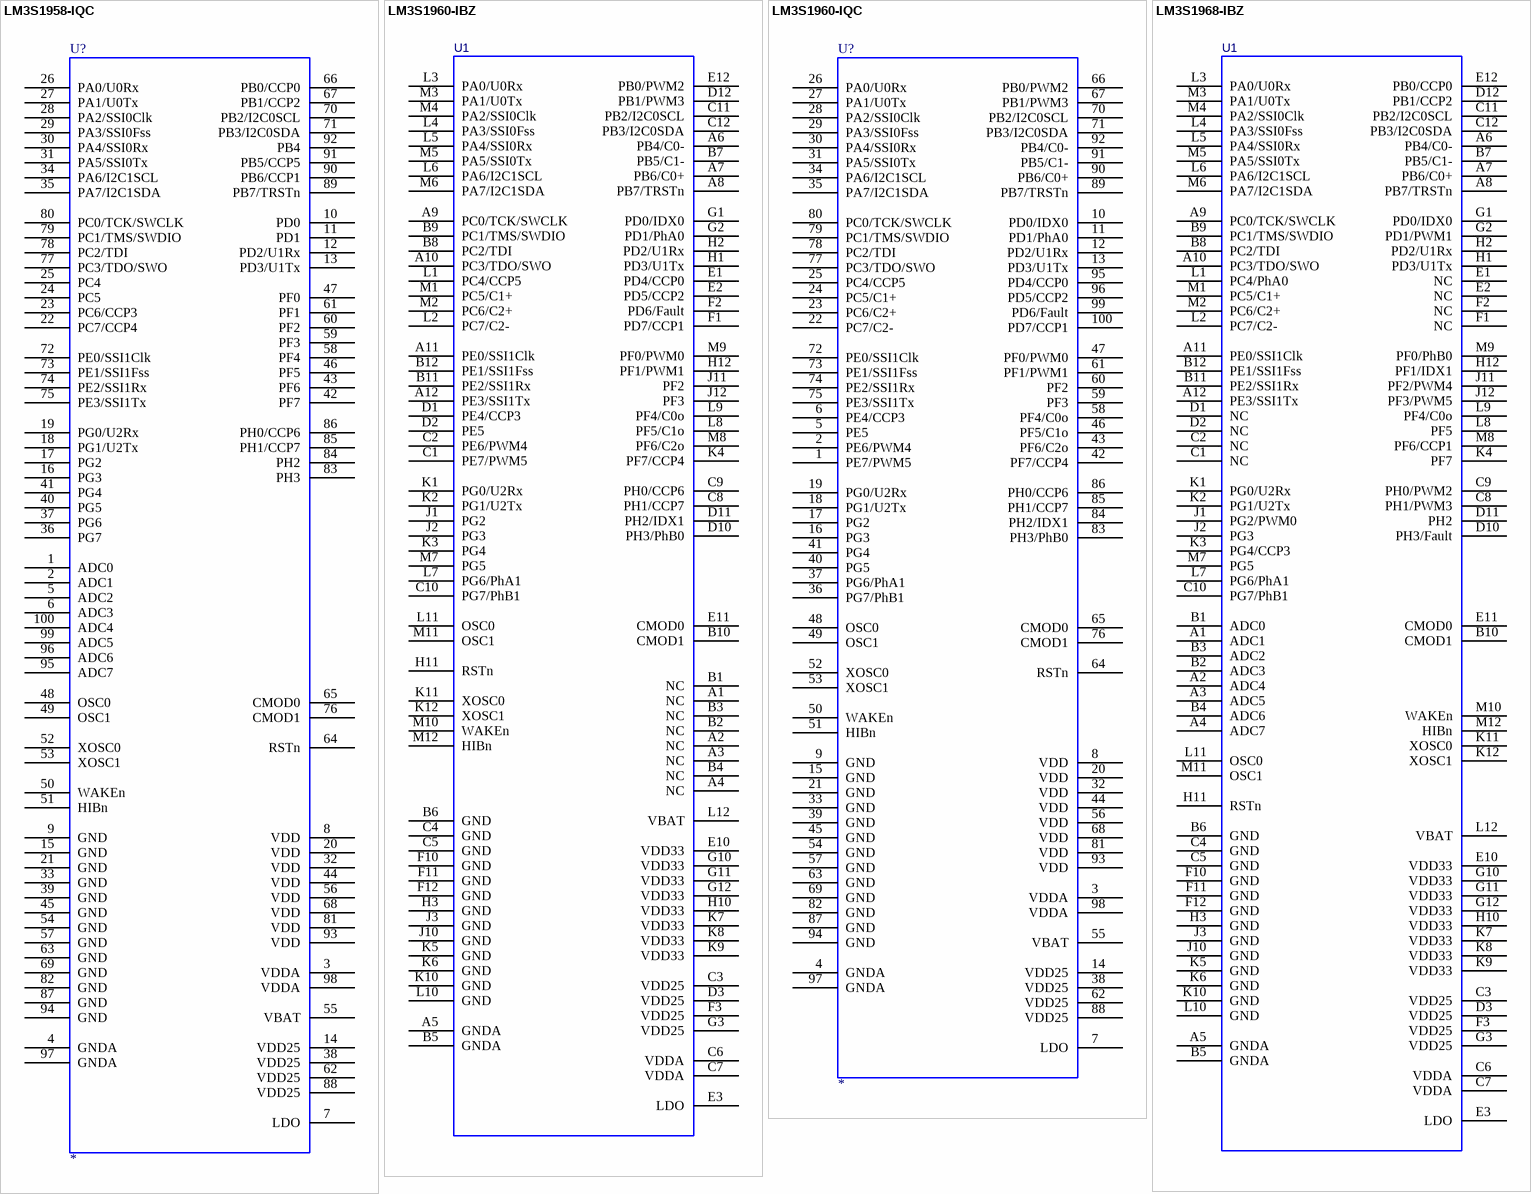
[diagram p16: symbols LM3S1958-IQC to LM3S1968-IBZ]

## LM3S1958-IQC
designator U?
Stellaris ARM Cortex-M3 Microcontroller; MFG: Luminary Micro; Ordering: LM3S1958-IQC; LMI Class: Fury
footprint QFP50P1600X1600X160-100N
pins: 1 ADC0, 2 ADC1, 3 VDDA, 4 GNDA, 5 ADC2, 6 ADC3, 7 LDO, 8 VDD, 9 GND, 10 PD0, 11 PD1, 12 PD2/U1Rx, 13 PD3/U1Tx, 14 VDD25, 15 GND, 16 PG3, 17 PG2, 18 PG1/U2Tx, 19 PG0/U2Rx, 20 VDD, 21 GND, 22 PC7/CCP4, 23 PC6/CCP3, 24 PC5, 25 PC4, 26 PA0/U0Rx, 27 PA1/U0Tx, 28 PA2/SSI0Clk, 29 PA3/SSI0Fss, 30 PA4/SSI0Rx, 31 PA5/SSI0Tx, 32 VDD, 33 GND, 34 PA6/I2C1SCL, 35 PA7/I2C1SDA, 36 PG7, 37 PG6, 38 VDD25, 39 GND, 40 PG5, 41 PG4, 42 PF7, 43 PF6, 44 VDD, 45 GND, 46 PF5, 47 PF0, 48 OSC0, 49 OSC1, 50 WAKEn, 51 HIBn, 52 XOSC0, 53 XOSC1, 54 GND, 55 VBAT, 56 VDD, 57 GND, 58 PF4, 59 PF3, 60 PF2, 61 PF1, 62 VDD25, 63 GND, 64 RSTn, 65 CMOD0, 66 PB0/CCP0, 67 PB1/CCP2, 68 VDD, 69 GND, 70 PB2/I2C0SCL, 71 PB3/I2C0SDA, 72 PE0/SSI1Clk, 73 PE1/SSI1Fss, 74 PE2/SSI1Rx, 75 PE3/SSI1Tx, 76 CMOD1, 77 PC3/TDO/SWO, 78 PC2/TDI, 79 PC1/TMS/SWDIO, 80 PC0/TCK/SWCLK, 81 VDD, 82 GND, 83 PH3, 84 PH2, 85 PH1/CCP7, 86 PH0/CCP6, 87 GND, 88 VDD25, 89 PB7/TRSTn, 90 PB6/CCP1, 91 PB5/CCP5, 92 PB4, 93 VDD, 94 GND, 95 ADC7, 96 ADC6, 97 GNDA, 98 VDDA, 99 ADC5, 100 ADC4

## LM3S1960-IBZ
designator U1
Stellaris ARM Cortex-M3 Microcontroller; MFG: Luminary Micro; Ordering: LM3S1960-IBZ; LMI Class: Fury
footprint BGA108C80P12X12_1000X1000X150 (BGA, 108-Leads, Body 10.0x10.0mm,  Pitch 0.80mm)
pins: A1 NC, A2 NC, A3 NC, A4 NC, A5 GNDA, A6 PB4/C0-, A7 PB6/C0+, A8 PB7/TRSTn, A9 PC0/TCK/SWCLK, A10 PC3/TDO/SWO, A11 PE0/SSI1Clk, A12 PE3/SSI1Tx, B1 NC, B2 NC, B3 NC, B4 NC, B5 GNDA, B6 GND, B7 PB5/C1-, B8 PC2/TDI, B9 PC1/TMS/SWDIO, B10 CMOD1, B11 PE2/SSI1Rx, B12 PE1/SSI1Fss, C1 PE7/PWM5, C2 PE6/PWM4, C3 VDD25, C4 GND, C5 GND, C6 VDDA, C7 VDDA, C8 PH1/CCP7, C9 PH0/CCP6, C10 PG7/PhB1, C11 PB2/I2C0SCL, C12 PB3/I2C0SDA, D1 PE4/CCP3, D2 PE5, D3 VDD25, D10 PH3/PhB0, D11 PH2/IDX1, D12 PB1/PWM3, E1 PD4/CCP0, E2 PD5/CCP2, E3 LDO, E10 VDD33, E11 CMOD0, E12 PB0/PWM2, F1 PD7/CCP1, F2 PD6/Fault, F3 VDD25, F10 GND, F11 GND, F12 GND, G1 PD0/IDX0, G2 PD1/PhA0, G3 VDD25, G10 VDD33, G11 VDD33, G12 VDD33, H1 PD3/U1Tx, H2 PD2/U1Rx, H3 GND, H10 VDD33, H11 RSTn, H12 PF1/PWM1, J1 PG2, J2 PG3, J3 GND, J10 GND, J11 PF2, J12 PF3, K1 PG0/U2Rx, K2 PG1/U2Tx, K3 PG4, K4 PF7/CCP4, K5 GND, K6 GND, K7 VDD33, K8 VDD33, K9 VDD33, K10 GND, K11 XOSC0, K12 XOSC1, L1 PC4/CCP5, L2 PC7/C2-, L3 PA0/U0Rx, L4 PA3/SSI0Fss, L5 PA4/SSI0Rx, L6 PA6/I2C1SCL, L7 PG6/PhA1, L8 PF5/C1o, L9 PF4/C0o, L10 GND, L11 OSC0, L12 VBAT, M1 PC5/C1+, M2 PC6/C2+, M3 PA1/U0Tx, M4 PA2/SSI0Clk, M5 PA5/SSI0Tx, M6 PA7/I2C1SDA, M7 PG5, M8 PF6/C2o, M9 PF0/PWM0, M10 WAKEn, M11 OSC1, M12 HIBn

## LM3S1960-IQC
designator U?
Stellaris ARM Cortex-M3 Microcontroller; MFG: Luminary Micro; Ordering: LM3S1960-IQC; LMI Class: Fury
footprint QFP50P1600X1600X160-100N
pins: 1 PE7/PWM5, 2 PE6/PWM4, 3 VDDA, 4 GNDA, 5 PE5, 6 PE4/CCP3, 7 LDO, 8 VDD, 9 GND, 10 PD0/IDX0, 11 PD1/PhA0, 12 PD2/U1Rx, 13 PD3/U1Tx, 14 VDD25, 15 GND, 16 PG3, 17 PG2, 18 PG1/U2Tx, 19 PG0/U2Rx, 20 VDD, 21 GND, 22 PC7/C2-, 23 PC6/C2+, 24 PC5/C1+, 25 PC4/CCP5, 26 PA0/U0Rx, 27 PA1/U0Tx, 28 PA2/SSI0Clk, 29 PA3/SSI0Fss, 30 PA4/SSI0Rx, 31 PA5/SSI0Tx, 32 VDD, 33 GND, 34 PA6/I2C1SCL, 35 PA7/I2C1SDA, 36 PG7/PhB1, 37 PG6/PhA1, 38 VDD25, 39 GND, 40 PG5, 41 PG4, 42 PF7/CCP4, 43 PF6/C2o, 44 VDD, 45 GND, 46 PF5/C1o, 47 PF0/PWM0, 48 OSC0, 49 OSC1, 50 WAKEn, 51 HIBn, 52 XOSC0, 53 XOSC1, 54 GND, 55 VBAT, 56 VDD, 57 GND, 58 PF4/C0o, 59 PF3, 60 PF2, 61 PF1/PWM1, 62 VDD25, 63 GND, 64 RSTn, 65 CMOD0, 66 PB0/PWM2, 67 PB1/PWM3, 68 VDD, 69 GND, 70 PB2/I2C0SCL, 71 PB3/I2C0SDA, 72 PE0/SSI1Clk, 73 PE1/SSI1Fss, 74 PE2/SSI1Rx, 75 PE3/SSI1Tx, 76 CMOD1, 77 PC3/TDO/SWO, 78 PC2/TDI, 79 PC1/TMS/SWDIO, 80 PC0/TCK/SWCLK, 81 VDD, 82 GND, 83 PH3/PhB0, 84 PH2/IDX1, 85 PH1/CCP7, 86 PH0/CCP6, 87 GND, 88 VDD25, 89 PB7/TRSTn, 90 PB6/C0+, 91 PB5/C1-, 92 PB4/C0-, 93 VDD, 94 GND, 95 PD4/CCP0, 96 PD5/CCP2, 97 GNDA, 98 VDDA, 99 PD6/Fault, 100 PD7/CCP1

## LM3S1968-IBZ
designator U1
Stellaris ARM Cortex-M3 Microcontroller; MFG: Luminary Micro; Ordering: LM3S1968-IBZ; LMI Class: Fury
footprint BGA108C80P12X12_1000X1000X150 (BGA, 108-Leads, Body 10.0x10.0mm,  Pitch 0.80mm)
pins: A1 ADC1, A2 ADC4, A3 ADC5, A4 ADC7, A5 GNDA, A6 PB4/C0-, A7 PB6/C0+, A8 PB7/TRSTn, A9 PC0/TCK/SWCLK, A10 PC3/TDO/SWO, A11 PE0/SSI1Clk, A12 PE3/SSI1Tx, B1 ADC0, B2 ADC3, B3 ADC2, B4 ADC6, B5 GNDA, B6 GND, B7 PB5/C1-, B8 PC2/TDI, B9 PC1/TMS/SWDIO, B10 CMOD1, B11 PE2/SSI1Rx, B12 PE1/SSI1Fss, C1 NC, C2 NC, C3 VDD25, C4 GND, C5 GND, C6 VDDA, C7 VDDA, C8 PH1/PWM3, C9 PH0/PWM2, C10 PG7/PhB1, C11 PB2/I2C0SCL, C12 PB3/I2C0SDA, D1 NC, D2 NC, D3 VDD25, D10 PH3/Fault, D11 PH2, D12 PB1/CCP2, E1 NC, E2 NC, E3 LDO, E10 VDD33, E11 CMOD0, E12 PB0/CCP0, F1 NC, F2 NC, F3 VDD25, F10 GND, F11 GND, F12 GND, G1 PD0/IDX0, G2 PD1/PWM1, G3 VDD25, G10 VDD33, G11 VDD33, G12 VDD33, H1 PD3/U1Tx, H2 PD2/U1Rx, H3 GND, H10 VDD33, H11 RSTn, H12 PF1/IDX1, J1 PG2/PWM0, J2 PG3, J3 GND, J10 GND, J11 PF2/PWM4, J12 PF3/PWM5, K1 PG0/U2Rx, K2 PG1/U2Tx, K3 PG4/CCP3, K4 PF7, K5 GND, K6 GND, K7 VDD33, K8 VDD33, K9 VDD33, K10 GND, K11 XOSC0, K12 XOSC1, L1 PC4/PhA0, L2 PC7/C2-, L3 PA0/U0Rx, L4 PA3/SSI0Fss, L5 PA4/SSI0Rx, L6 PA6/I2C1SCL, L7 PG6/PhA1, L8 PF5, L9 PF4/C0o, L10 GND, L11 OSC0, L12 VBAT, M1 PC5/C1+, M2 PC6/C2+, M3 PA1/U0Tx, M4 PA2/SSI0Clk, M5 PA5/SSI0Tx, M6 PA7/I2C1SDA, M7 PG5, M8 PF6/CCP1, M9 PF0/PhB0, M10 WAKEn, M11 OSC1, M12 HIBn

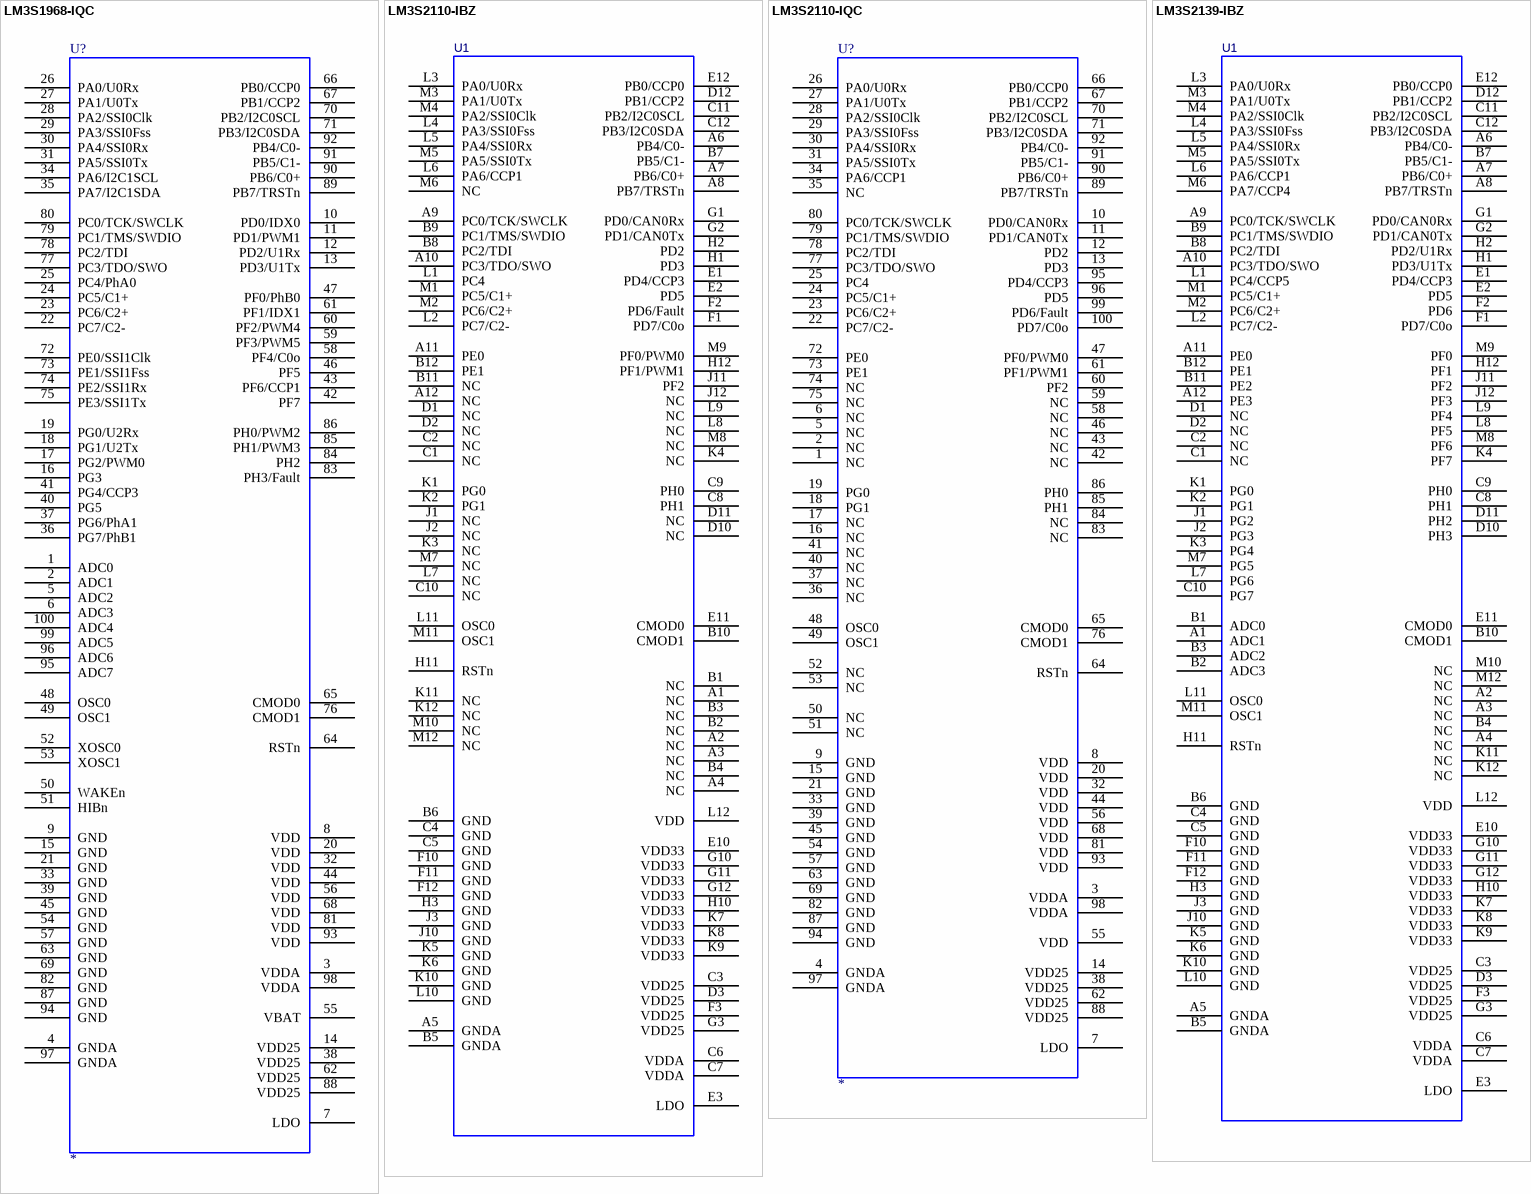
[diagram p17: symbols LM3S1968-IQC to LM3S2139-IBZ]

## LM3S1968-IQC
designator U?
Stellaris ARM Cortex-M3 Microcontroller; MFG: Luminary Micro; Ordering: LM3S1968-IQC; LMI Class: Fury
footprint QFP50P1600X1600X160-100N
pins: 1 ADC0, 2 ADC1, 3 VDDA, 4 GNDA, 5 ADC2, 6 ADC3, 7 LDO, 8 VDD, 9 GND, 10 PD0/IDX0, 11 PD1/PWM1, 12 PD2/U1Rx, 13 PD3/U1Tx, 14 VDD25, 15 GND, 16 PG3, 17 PG2/PWM0, 18 PG1/U2Tx, 19 PG0/U2Rx, 20 VDD, 21 GND, 22 PC7/C2-, 23 PC6/C2+, 24 PC5/C1+, 25 PC4/PhA0, 26 PA0/U0Rx, 27 PA1/U0Tx, 28 PA2/SSI0Clk, 29 PA3/SSI0Fss, 30 PA4/SSI0Rx, 31 PA5/SSI0Tx, 32 VDD, 33 GND, 34 PA6/I2C1SCL, 35 PA7/I2C1SDA, 36 PG7/PhB1, 37 PG6/PhA1, 38 VDD25, 39 GND, 40 PG5, 41 PG4/CCP3, 42 PF7, 43 PF6/CCP1, 44 VDD, 45 GND, 46 PF5, 47 PF0/PhB0, 48 OSC0, 49 OSC1, 50 WAKEn, 51 HIBn, 52 XOSC0, 53 XOSC1, 54 GND, 55 VBAT, 56 VDD, 57 GND, 58 PF4/C0o, 59 PF3/PWM5, 60 PF2/PWM4, 61 PF1/IDX1, 62 VDD25, 63 GND, 64 RSTn, 65 CMOD0, 66 PB0/CCP0, 67 PB1/CCP2, 68 VDD, 69 GND, 70 PB2/I2C0SCL, 71 PB3/I2C0SDA, 72 PE0/SSI1Clk, 73 PE1/SSI1Fss, 74 PE2/SSI1Rx, 75 PE3/SSI1Tx, 76 CMOD1, 77 PC3/TDO/SWO, 78 PC2/TDI, 79 PC1/TMS/SWDIO, 80 PC0/TCK/SWCLK, 81 VDD, 82 GND, 83 PH3/Fault, 84 PH2, 85 PH1/PWM3, 86 PH0/PWM2, 87 GND, 88 VDD25, 89 PB7/TRSTn, 90 PB6/C0+, 91 PB5/C1-, 92 PB4/C0-, 93 VDD, 94 GND, 95 ADC7, 96 ADC6, 97 GNDA, 98 VDDA, 99 ADC5, 100 ADC4

## LM3S2110-IBZ
designator U1
Stellaris ARM Cortex-M3 Microcontroller; MFG: Luminary Micro; Ordering: LM3S2110-IBZ; LMI Class: Fury
footprint BGA108C80P12X12_1000X1000X150 (BGA, 108-Leads, Body 10.0x10.0mm,  Pitch 0.80mm)
pins: A1 NC, A2 NC, A3 NC, A4 NC, A5 GNDA, A6 PB4/C0-, A7 PB6/C0+, A8 PB7/TRSTn, A9 PC0/TCK/SWCLK, A10 PC3/TDO/SWO, A11 PE0, A12 NC, B1 NC, B2 NC, B3 NC, B4 NC, B5 GNDA, B6 GND, B7 PB5/C1-, B8 PC2/TDI, B9 PC1/TMS/SWDIO, B10 CMOD1, B11 NC, B12 PE1, C1 NC, C2 NC, C3 VDD25, C4 GND, C5 GND, C6 VDDA, C7 VDDA, C8 PH1, C9 PH0, C10 NC, C11 PB2/I2C0SCL, C12 PB3/I2C0SDA, D1 NC, D2 NC, D3 VDD25, D10 NC, D11 NC, D12 PB1/CCP2, E1 PD4/CCP3, E2 PD5, E3 LDO, E10 VDD33, E11 CMOD0, E12 PB0/CCP0, F1 PD7/C0o, F2 PD6/Fault, F3 VDD25, F10 GND, F11 GND, F12 GND, G1 PD0/CAN0Rx, G2 PD1/CAN0Tx, G3 VDD25, G10 VDD33, G11 VDD33, G12 VDD33, H1 PD3, H2 PD2, H3 GND, H10 VDD33, H11 RSTn, H12 PF1/PWM1, J1 NC, J2 NC, J3 GND, J10 GND, J11 PF2, J12 NC, K1 PG0, K2 PG1, K3 NC, K4 NC, K5 GND, K6 GND, K7 VDD33, K8 VDD33, K9 VDD33, K10 GND, K11 NC, K12 NC, L1 PC4, L2 PC7/C2-, L3 PA0/U0Rx, L4 PA3/SSI0Fss, L5 PA4/SSI0Rx, L6 PA6/CCP1, L7 NC, L8 NC, L9 NC, L10 GND, L11 OSC0, L12 VDD, M1 PC5/C1+, M2 PC6/C2+, M3 PA1/U0Tx, M4 PA2/SSI0Clk, M5 PA5/SSI0Tx, M6 NC, M7 NC, M8 NC, M9 PF0/PWM0, M10 NC, M11 OSC1, M12 NC

## LM3S2110-IQC
designator U?
Stellaris ARM Cortex-M3 Microcontroller; MFG: Luminary Micro; Ordering: LM3S2110-IQC; LMI Class: Fury
footprint QFP50P1600X1600X160-100N
pins: 1 NC, 2 NC, 3 VDDA, 4 GNDA, 5 NC, 6 NC, 7 LDO, 8 VDD, 9 GND, 10 PD0/CAN0Rx, 11 PD1/CAN0Tx, 12 PD2, 13 PD3, 14 VDD25, 15 GND, 16 NC, 17 NC, 18 PG1, 19 PG0, 20 VDD, 21 GND, 22 PC7/C2-, 23 PC6/C2+, 24 PC5/C1+, 25 PC4, 26 PA0/U0Rx, 27 PA1/U0Tx, 28 PA2/SSI0Clk, 29 PA3/SSI0Fss, 30 PA4/SSI0Rx, 31 PA5/SSI0Tx, 32 VDD, 33 GND, 34 PA6/CCP1, 35 NC, 36 NC, 37 NC, 38 VDD25, 39 GND, 40 NC, 41 NC, 42 NC, 43 NC, 44 VDD, 45 GND, 46 NC, 47 PF0/PWM0, 48 OSC0, 49 OSC1, 50 NC, 51 NC, 52 NC, 53 NC, 54 GND, 55 VDD, 56 VDD, 57 GND, 58 NC, 59 NC, 60 PF2, 61 PF1/PWM1, 62 VDD25, 63 GND, 64 RSTn, 65 CMOD0, 66 PB0/CCP0, 67 PB1/CCP2, 68 VDD, 69 GND, 70 PB2/I2C0SCL, 71 PB3/I2C0SDA, 72 PE0, 73 PE1, 74 NC, 75 NC, 76 CMOD1, 77 PC3/TDO/SWO, 78 PC2/TDI, 79 PC1/TMS/SWDIO, 80 PC0/TCK/SWCLK, 81 VDD, 82 GND, 83 NC, 84 NC, 85 PH1, 86 PH0, 87 GND, 88 VDD25, 89 PB7/TRSTn, 90 PB6/C0+, 91 PB5/C1-, 92 PB4/C0-, 93 VDD, 94 GND, 95 PD4/CCP3, 96 PD5, 97 GNDA, 98 VDDA, 99 PD6/Fault, 100 PD7/C0o

## LM3S2139-IBZ
designator U1
Stellaris ARM Cortex-M3 Microcontroller; MFG: Luminary Micro; Ordering: LM3S2139-IBZ; LMI Class: Fury
footprint BGA108C80P12X12_1000X1000X150 (BGA, 108-Leads, Body 10.0x10.0mm,  Pitch 0.80mm)
pins: A1 ADC1, A2 NC, A3 NC, A4 NC, A5 GNDA, A6 PB4/C0-, A7 PB6/C0+, A8 PB7/TRSTn, A9 PC0/TCK/SWCLK, A10 PC3/TDO/SWO, A11 PE0, A12 PE3, B1 ADC0, B2 ADC3, B3 ADC2, B4 NC, B5 GNDA, B6 GND, B7 PB5/C1-, B8 PC2/TDI, B9 PC1/TMS/SWDIO, B10 CMOD1, B11 PE2, B12 PE1, C1 NC, C2 NC, C3 VDD25, C4 GND, C5 GND, C6 VDDA, C7 VDDA, C8 PH1, C9 PH0, C10 PG7, C11 PB2/I2C0SCL, C12 PB3/I2C0SDA, D1 NC, D2 NC, D3 VDD25, D10 PH3, D11 PH2, D12 PB1/CCP2, E1 PD4/CCP3, E2 PD5, E3 LDO, E10 VDD33, E11 CMOD0, E12 PB0/CCP0, F1 PD7/C0o, F2 PD6, F3 VDD25, F10 GND, F11 GND, F12 GND, G1 PD0/CAN0Rx, G2 PD1/CAN0Tx, G3 VDD25, G10 VDD33, G11 VDD33, G12 VDD33, H1 PD3/U1Tx, H2 PD2/U1Rx, H3 GND, H10 VDD33, H11 RSTn, H12 PF1, J1 PG2, J2 PG3, J3 GND, J10 GND, J11 PF2, J12 PF3, K1 PG0, K2 PG1, K3 PG4, K4 PF7, K5 GND, K6 GND, K7 VDD33, K8 VDD33, K9 VDD33, K10 GND, K11 NC, K12 NC, L1 PC4/CCP5, L2 PC7/C2-, L3 PA0/U0Rx, L4 PA3/SSI0Fss, L5 PA4/SSI0Rx, L6 PA6/CCP1, L7 PG6, L8 PF5, L9 PF4, L10 GND, L11 OSC0, L12 VDD, M1 PC5/C1+, M2 PC6/C2+, M3 PA1/U0Tx, M4 PA2/SSI0Clk, M5 PA5/SSI0Tx, M6 PA7/CCP4, M7 PG5, M8 PF6, M9 PF0, M10 NC, M11 OSC1, M12 NC

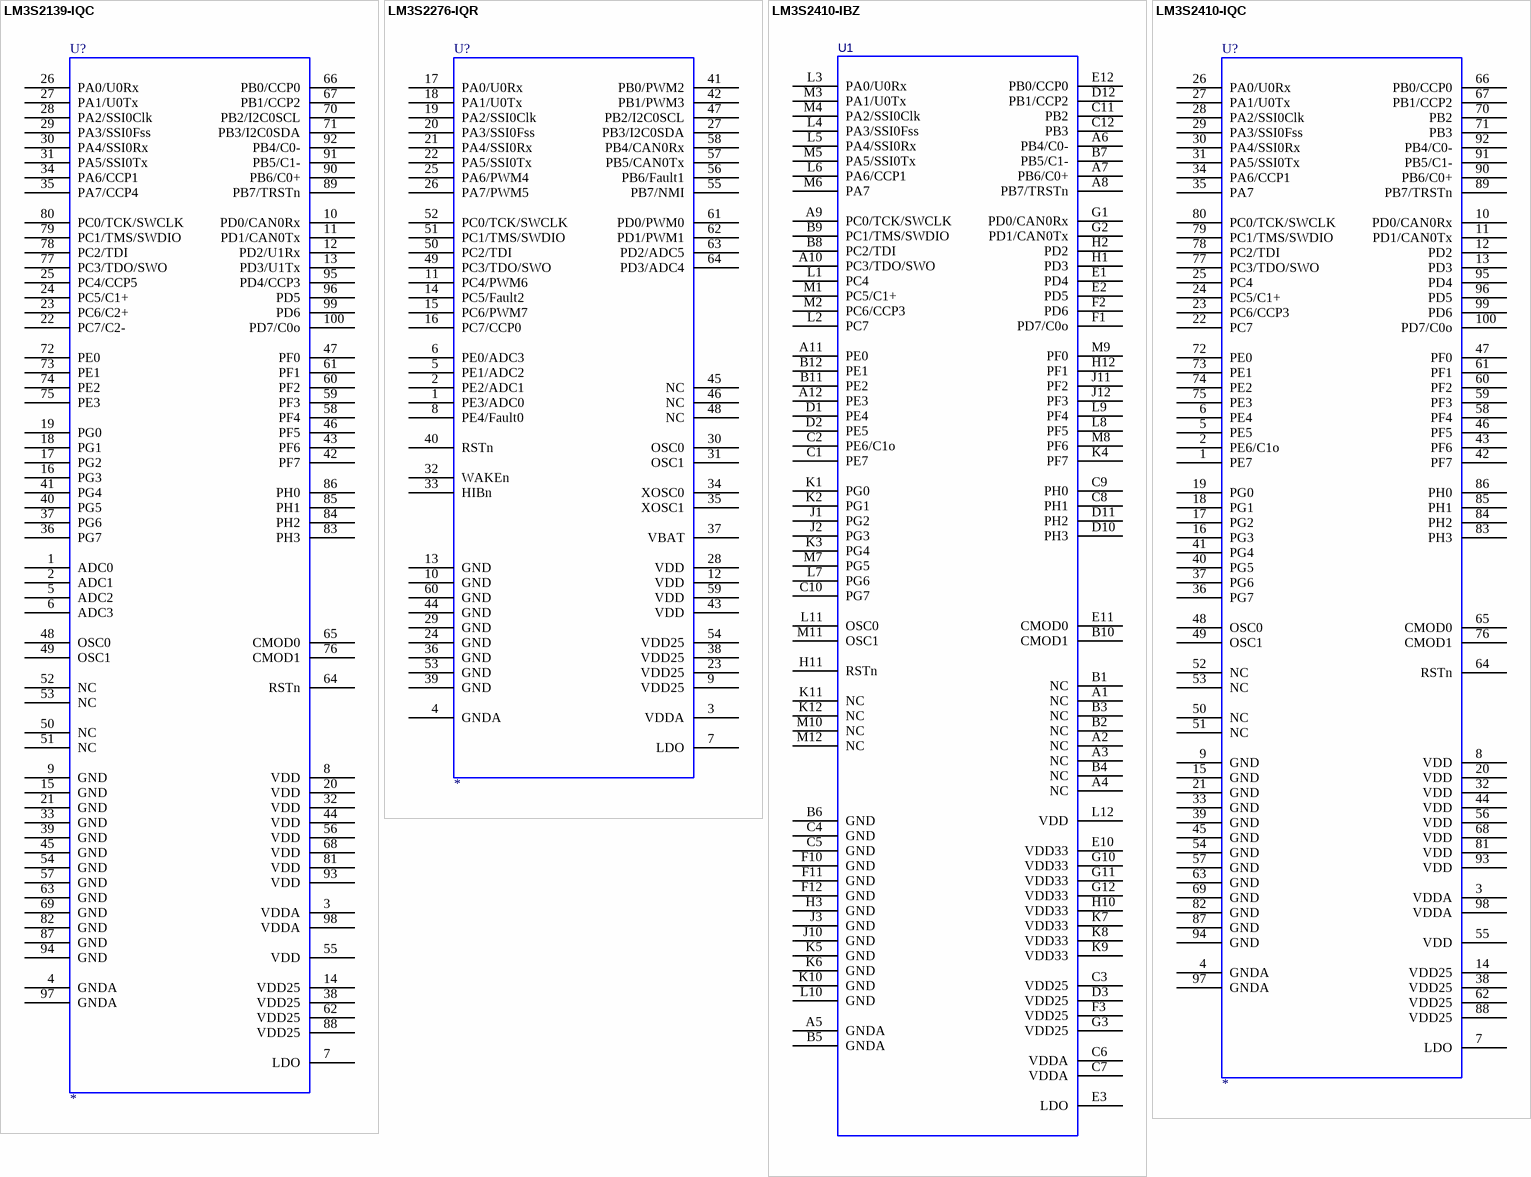
[diagram p18: symbols LM3S2139-IQC to LM3S2410-IQC]

## LM3S2139-IQC
designator U?
Stellaris ARM Cortex-M3 Microcontroller; MFG: Luminary Micro; Ordering: LM3S2139-IQC; LMI Class: Fury
footprint QFP50P1600X1600X160-100N
pins: 1 ADC0, 2 ADC1, 3 VDDA, 4 GNDA, 5 ADC2, 6 ADC3, 7 LDO, 8 VDD, 9 GND, 10 PD0/CAN0Rx, 11 PD1/CAN0Tx, 12 PD2/U1Rx, 13 PD3/U1Tx, 14 VDD25, 15 GND, 16 PG3, 17 PG2, 18 PG1, 19 PG0, 20 VDD, 21 GND, 22 PC7/C2-, 23 PC6/C2+, 24 PC5/C1+, 25 PC4/CCP5, 26 PA0/U0Rx, 27 PA1/U0Tx, 28 PA2/SSI0Clk, 29 PA3/SSI0Fss, 30 PA4/SSI0Rx, 31 PA5/SSI0Tx, 32 VDD, 33 GND, 34 PA6/CCP1, 35 PA7/CCP4, 36 PG7, 37 PG6, 38 VDD25, 39 GND, 40 PG5, 41 PG4, 42 PF7, 43 PF6, 44 VDD, 45 GND, 46 PF5, 47 PF0, 48 OSC0, 49 OSC1, 50 NC, 51 NC, 52 NC, 53 NC, 54 GND, 55 VDD, 56 VDD, 57 GND, 58 PF4, 59 PF3, 60 PF2, 61 PF1, 62 VDD25, 63 GND, 64 RSTn, 65 CMOD0, 66 PB0/CCP0, 67 PB1/CCP2, 68 VDD, 69 GND, 70 PB2/I2C0SCL, 71 PB3/I2C0SDA, 72 PE0, 73 PE1, 74 PE2, 75 PE3, 76 CMOD1, 77 PC3/TDO/SWO, 78 PC2/TDI, 79 PC1/TMS/SWDIO, 80 PC0/TCK/SWCLK, 81 VDD, 82 GND, 83 PH3, 84 PH2, 85 PH1, 86 PH0, 87 GND, 88 VDD25, 89 PB7/TRSTn, 90 PB6/C0+, 91 PB5/C1-, 92 PB4/C0-, 93 VDD, 94 GND, 95 PD4/CCP3, 96 PD5, 97 GNDA, 98 VDDA, 99 PD6, 100 PD7/C0o

## LM3S2276-IQR
designator U?
Stellaris ARM Cortex-M3 Microcontroller; MFG: Luminary Micro; Ordering: LM3S2276-IQR; LMI Class: Dust Devil
footprint QFP50P1200X1200X160-64N
pins: 1 PE3/ADC0, 2 PE2/ADC1, 3 VDDA, 4 GNDA, 5 PE1/ADC2, 6 PE0/ADC3, 7 LDO, 8 PE4/Fault0, 9 VDD25, 10 GND, 11 PC4/PWM6, 12 VDD, 13 GND, 14 PC5/Fault2, 15 PC6/PWM7, 16 PC7/CCP0, 17 PA0/U0Rx, 18 PA1/U0Tx, 19 PA2/SSI0Clk, 20 PA3/SSI0Fss, 21 PA4/SSI0Rx, 22 PA5/SSI0Tx, 23 VDD25, 24 GND, 25 PA6/PWM4, 26 PA7/PWM5, 27 PB3/I2C0SDA, 28 VDD, 29 GND, 30 OSC0, 31 OSC1, 32 WAKEn, 33 HIBn, 34 XOSC0, 35 XOSC1, 36 GND, 37 VBAT, 38 VDD25, 39 GND, 40 RSTn, 41 PB0/PWM2, 42 PB1/PWM3, 43 VDD, 44 GND, 45 NC, 46 NC, 47 PB2/I2C0SCL, 48 NC, 49 PC3/TDO/SWO, 50 PC2/TDI, 51 PC1/TMS/SWDIO, 52 PC0/TCK/SWCLK, 53 GND, 54 VDD25, 55 PB7/NMI, 56 PB6/Fault1, 57 PB5/CAN0Tx, 58 PB4/CAN0Rx, 59 VDD, 60 GND, 61 PD0/PWM0, 62 PD1/PWM1, 63 PD2/ADC5, 64 PD3/ADC4

## LM3S2410-IBZ
designator U1
Stellaris ARM Cortex-M3 Microcontroller; MFG: Luminary Micro; Ordering: LM3S2410-IBZ; LMI Class: Fury
footprint BGA108C80P12X12_1000X1000X150 (BGA, 108-Leads, Body 10.0x10.0mm,  Pitch 0.80mm)
pins: A1 NC, A2 NC, A3 NC, A4 NC, A5 GNDA, A6 PB4/C0-, A7 PB6/C0+, A8 PB7/TRSTn, A9 PC0/TCK/SWCLK, A10 PC3/TDO/SWO, A11 PE0, A12 PE3, B1 NC, B2 NC, B3 NC, B4 NC, B5 GNDA, B6 GND, B7 PB5/C1-, B8 PC2/TDI, B9 PC1/TMS/SWDIO, B10 CMOD1, B11 PE2, B12 PE1, C1 PE7, C2 PE6/C1o, C3 VDD25, C4 GND, C5 GND, C6 VDDA, C7 VDDA, C8 PH1, C9 PH0, C10 PG7, C11 PB2, C12 PB3, D1 PE4, D2 PE5, D3 VDD25, D10 PH3, D11 PH2, D12 PB1/CCP2, E1 PD4, E2 PD5, E3 LDO, E10 VDD33, E11 CMOD0, E12 PB0/CCP0, F1 PD7/C0o, F2 PD6, F3 VDD25, F10 GND, F11 GND, F12 GND, G1 PD0/CAN0Rx, G2 PD1/CAN0Tx, G3 VDD25, G10 VDD33, G11 VDD33, G12 VDD33, H1 PD3, H2 PD2, H3 GND, H10 VDD33, H11 RSTn, H12 PF1, J1 PG2, J2 PG3, J3 GND, J10 GND, J11 PF2, J12 PF3, K1 PG0, K2 PG1, K3 PG4, K4 PF7, K5 GND, K6 GND, K7 VDD33, K8 VDD33, K9 VDD33, K10 GND, K11 NC, K12 NC, L1 PC4, L2 PC7, L3 PA0/U0Rx, L4 PA3/SSI0Fss, L5 PA4/SSI0Rx, L6 PA6/CCP1, L7 PG6, L8 PF5, L9 PF4, L10 GND, L11 OSC0, L12 VDD, M1 PC5/C1+, M2 PC6/CCP3, M3 PA1/U0Tx, M4 PA2/SSI0Clk, M5 PA5/SSI0Tx, M6 PA7, M7 PG5, M8 PF6, M9 PF0, M10 NC, M11 OSC1, M12 NC

## LM3S2410-IQC
designator U?
Stellaris ARM Cortex-M3 Microcontroller; MFG: Luminary Micro; Ordering: LM3S2410-IQC; LMI Class: Fury
footprint QFP50P1600X1600X160-100N
pins: 1 PE7, 2 PE6/C1o, 3 VDDA, 4 GNDA, 5 PE5, 6 PE4, 7 LDO, 8 VDD, 9 GND, 10 PD0/CAN0Rx, 11 PD1/CAN0Tx, 12 PD2, 13 PD3, 14 VDD25, 15 GND, 16 PG3, 17 PG2, 18 PG1, 19 PG0, 20 VDD, 21 GND, 22 PC7, 23 PC6/CCP3, 24 PC5/C1+, 25 PC4, 26 PA0/U0Rx, 27 PA1/U0Tx, 28 PA2/SSI0Clk, 29 PA3/SSI0Fss, 30 PA4/SSI0Rx, 31 PA5/SSI0Tx, 32 VDD, 33 GND, 34 PA6/CCP1, 35 PA7, 36 PG7, 37 PG6, 38 VDD25, 39 GND, 40 PG5, 41 PG4, 42 PF7, 43 PF6, 44 VDD, 45 GND, 46 PF5, 47 PF0, 48 OSC0, 49 OSC1, 50 NC, 51 NC, 52 NC, 53 NC, 54 GND, 55 VDD, 56 VDD, 57 GND, 58 PF4, 59 PF3, 60 PF2, 61 PF1, 62 VDD25, 63 GND, 64 RSTn, 65 CMOD0, 66 PB0/CCP0, 67 PB1/CCP2, 68 VDD, 69 GND, 70 PB2, 71 PB3, 72 PE0, 73 PE1, 74 PE2, 75 PE3, 76 CMOD1, 77 PC3/TDO/SWO, 78 PC2/TDI, 79 PC1/TMS/SWDIO, 80 PC0/TCK/SWCLK, 81 VDD, 82 GND, 83 PH3, 84 PH2, 85 PH1, 86 PH0, 87 GND, 88 VDD25, 89 PB7/TRSTn, 90 PB6/C0+, 91 PB5/C1-, 92 PB4/C0-, 93 VDD, 94 GND, 95 PD4, 96 PD5, 97 GNDA, 98 VDDA, 99 PD6, 100 PD7/C0o

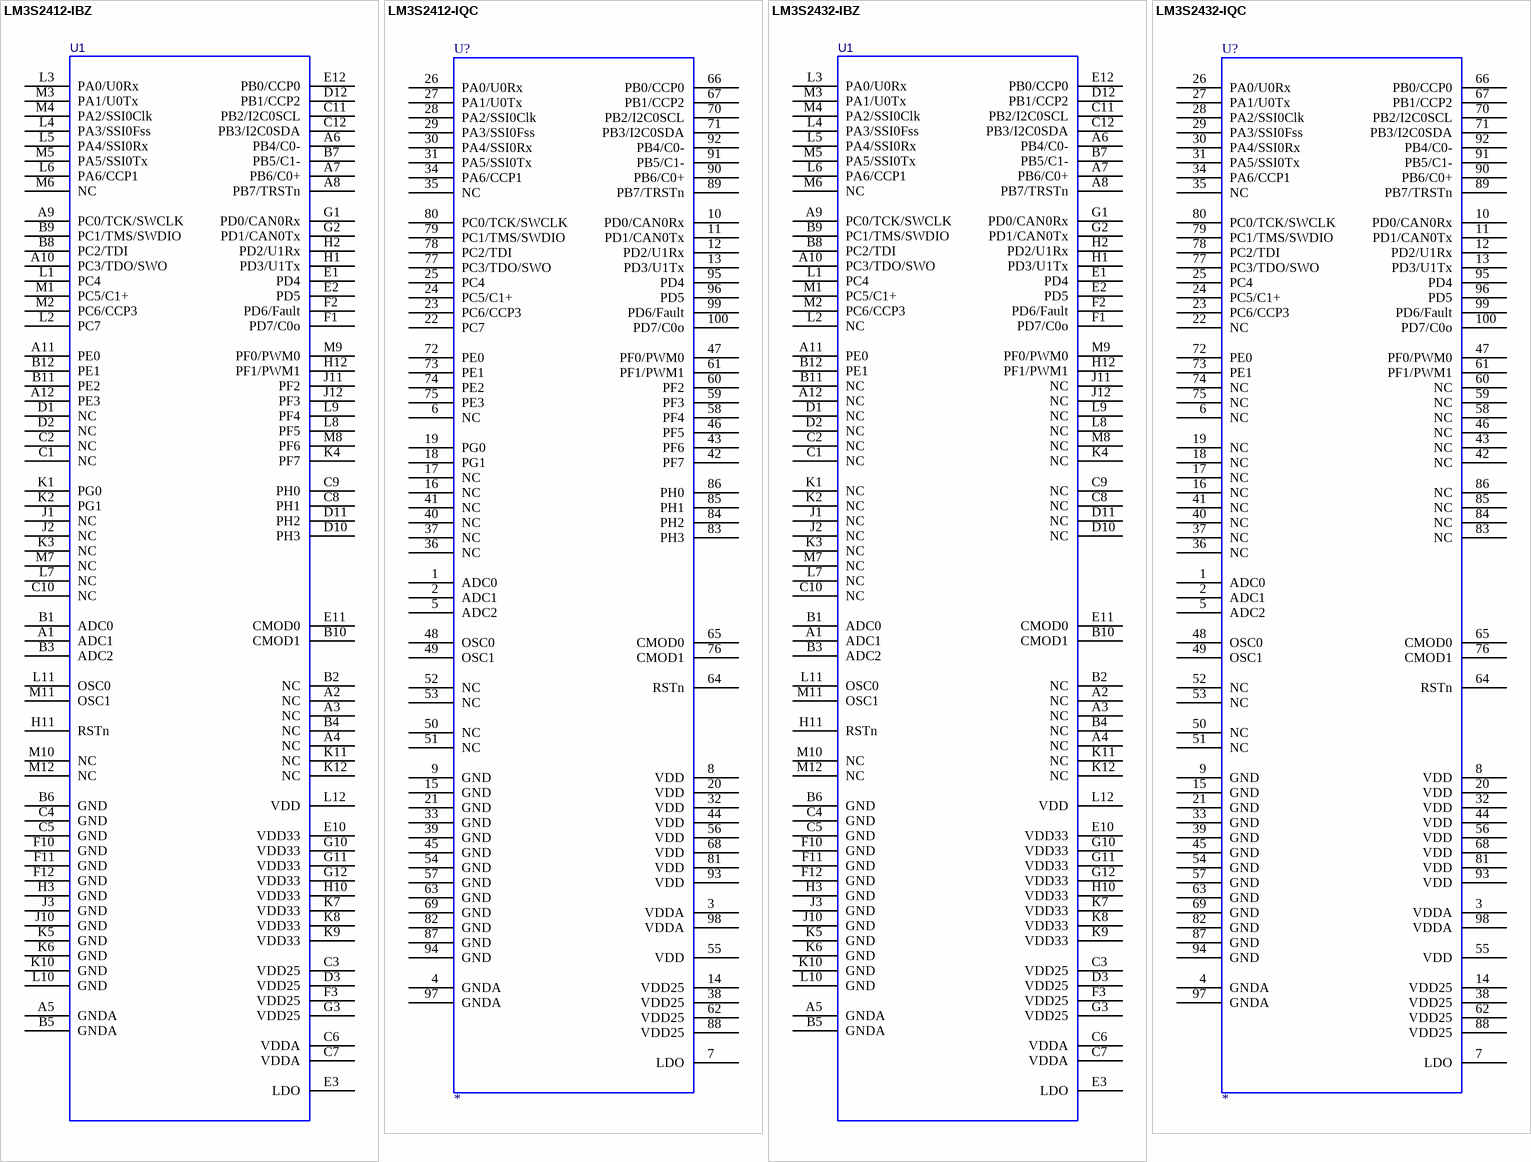
[diagram p19: symbols LM3S2412-IBZ to LM3S2432-IQC]

## LM3S2412-IBZ
designator U1
Stellaris ARM Cortex-M3 Microcontroller; MFG: Luminary Micro; Ordering: LM3S2412-IBZ; LMI Class: Fury
footprint BGA108C80P12X12_1000X1000X150 (BGA, 108-Leads, Body 10.0x10.0mm,  Pitch 0.80mm)
pins: A1 ADC1, A2 NC, A3 NC, A4 NC, A5 GNDA, A6 PB4/C0-, A7 PB6/C0+, A8 PB7/TRSTn, A9 PC0/TCK/SWCLK, A10 PC3/TDO/SWO, A11 PE0, A12 PE3, B1 ADC0, B2 NC, B3 ADC2, B4 NC, B5 GNDA, B6 GND, B7 PB5/C1-, B8 PC2/TDI, B9 PC1/TMS/SWDIO, B10 CMOD1, B11 PE2, B12 PE1, C1 NC, C2 NC, C3 VDD25, C4 GND, C5 GND, C6 VDDA, C7 VDDA, C8 PH1, C9 PH0, C10 NC, C11 PB2/I2C0SCL, C12 PB3/I2C0SDA, D1 NC, D2 NC, D3 VDD25, D10 PH3, D11 PH2, D12 PB1/CCP2, E1 PD4, E2 PD5, E3 LDO, E10 VDD33, E11 CMOD0, E12 PB0/CCP0, F1 PD7/C0o, F2 PD6/Fault, F3 VDD25, F10 GND, F11 GND, F12 GND, G1 PD0/CAN0Rx, G2 PD1/CAN0Tx, G3 VDD25, G10 VDD33, G11 VDD33, G12 VDD33, H1 PD3/U1Tx, H2 PD2/U1Rx, H3 GND, H10 VDD33, H11 RSTn, H12 PF1/PWM1, J1 NC, J2 NC, J3 GND, J10 GND, J11 PF2, J12 PF3, K1 PG0, K2 PG1, K3 NC, K4 PF7, K5 GND, K6 GND, K7 VDD33, K8 VDD33, K9 VDD33, K10 GND, K11 NC, K12 NC, L1 PC4, L2 PC7, L3 PA0/U0Rx, L4 PA3/SSI0Fss, L5 PA4/SSI0Rx, L6 PA6/CCP1, L7 NC, L8 PF5, L9 PF4, L10 GND, L11 OSC0, L12 VDD, M1 PC5/C1+, M2 PC6/CCP3, M3 PA1/U0Tx, M4 PA2/SSI0Clk, M5 PA5/SSI0Tx, M6 NC, M7 NC, M8 PF6, M9 PF0/PWM0, M10 NC, M11 OSC1, M12 NC

## LM3S2412-IQC
designator U?
Stellaris ARM Cortex-M3 Microcontroller; MFG: Luminary Micro; Ordering: LM3S2412-IQC; LMI Class: Fury
footprint QFP50P1600X1600X160-100N
pins: 1 ADC0, 2 ADC1, 3 VDDA, 4 GNDA, 5 ADC2, 6 NC, 7 LDO, 8 VDD, 9 GND, 10 PD0/CAN0Rx, 11 PD1/CAN0Tx, 12 PD2/U1Rx, 13 PD3/U1Tx, 14 VDD25, 15 GND, 16 NC, 17 NC, 18 PG1, 19 PG0, 20 VDD, 21 GND, 22 PC7, 23 PC6/CCP3, 24 PC5/C1+, 25 PC4, 26 PA0/U0Rx, 27 PA1/U0Tx, 28 PA2/SSI0Clk, 29 PA3/SSI0Fss, 30 PA4/SSI0Rx, 31 PA5/SSI0Tx, 32 VDD, 33 GND, 34 PA6/CCP1, 35 NC, 36 NC, 37 NC, 38 VDD25, 39 GND, 40 NC, 41 NC, 42 PF7, 43 PF6, 44 VDD, 45 GND, 46 PF5, 47 PF0/PWM0, 48 OSC0, 49 OSC1, 50 NC, 51 NC, 52 NC, 53 NC, 54 GND, 55 VDD, 56 VDD, 57 GND, 58 PF4, 59 PF3, 60 PF2, 61 PF1/PWM1, 62 VDD25, 63 GND, 64 RSTn, 65 CMOD0, 66 PB0/CCP0, 67 PB1/CCP2, 68 VDD, 69 GND, 70 PB2/I2C0SCL, 71 PB3/I2C0SDA, 72 PE0, 73 PE1, 74 PE2, 75 PE3, 76 CMOD1, 77 PC3/TDO/SWO, 78 PC2/TDI, 79 PC1/TMS/SWDIO, 80 PC0/TCK/SWCLK, 81 VDD, 82 GND, 83 PH3, 84 PH2, 85 PH1, 86 PH0, 87 GND, 88 VDD25, 89 PB7/TRSTn, 90 PB6/C0+, 91 PB5/C1-, 92 PB4/C0-, 93 VDD, 94 GND, 95 PD4, 96 PD5, 97 GNDA, 98 VDDA, 99 PD6/Fault, 100 PD7/C0o